# Altium schematic symbol library majestic_LibAltium.SchLib: 368 symbols (part 2 of 3)
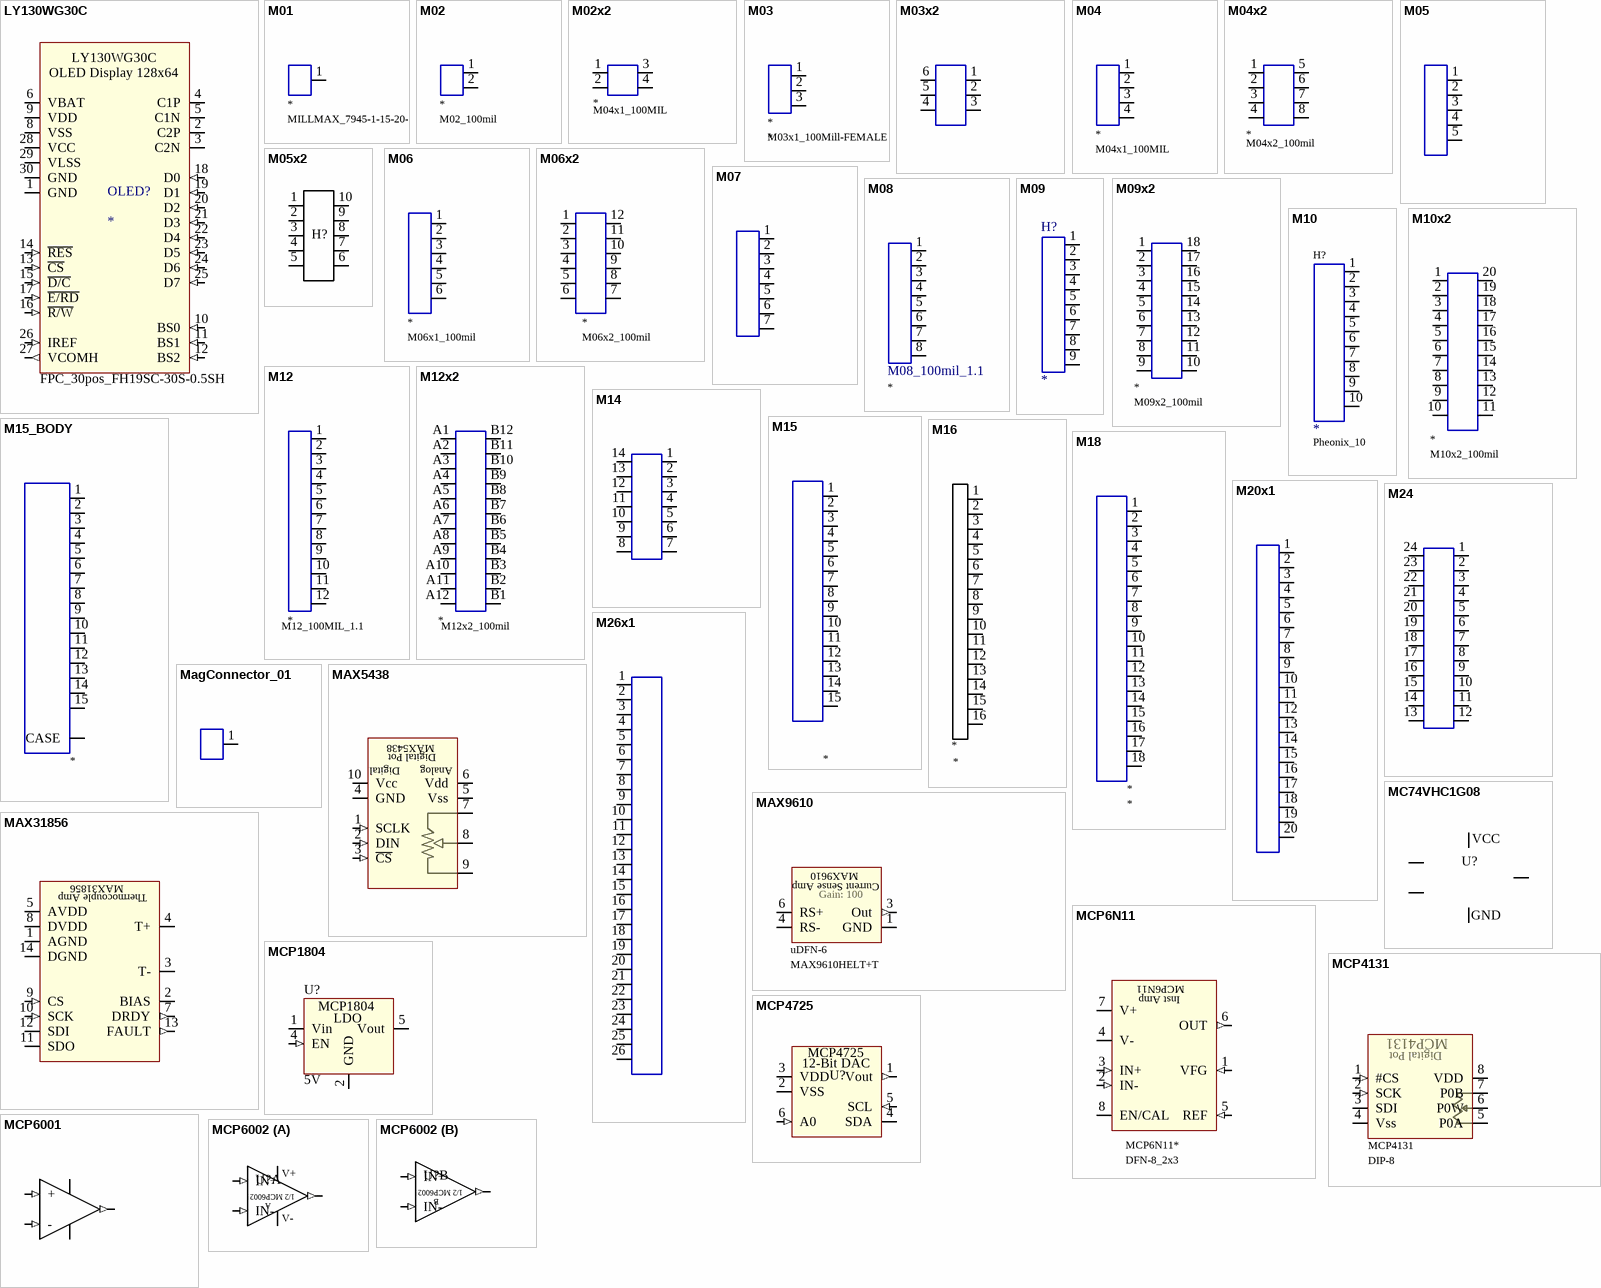
[diagram p14: symbols LY130WG30C to MCP6002]

## LY130WG30C
designator OLED?
128x64 OLED display, 1.3"; Part Number: LY130WG30C-128064; Manufacturer: LI YUAN Electronics; Value: OLED 128x64; Power Rating: *; Room Code: *
footprint FPC_30pos_FH19SC-30S-0.5SH; pin to pad 1>30 2>29 3>28 4>27 5>26 6>25 8>23 9>22 10>21 11>20 12>19 13>18 14>17 15>16 16>15 17>14 18>13 19>12 20>11 21>10 22>9 23>8 24>7 25>6 26>5 27>4 28>3 29>2 30>1
footprint FPC_30pos_FH19SC-30S-0.5SH -Display
footprint SFV30R-4STE1HLF
footprint F32Q-1A7H1-11030 (FPC 30-POS 0.5mm)
pins: 1 GND (power), 2 C2P, 3 C2N, 4 C1P, 5 C1N, 6 VBAT (power), 8 VSS (power), 9 VDD (power), 10 BS0 (in), 11 BS1 (in), 12 BS2 (in), 13 ~{CS} (in), 14 ~{RES} (in), 15 ~{D/C} (in), 16 ~{R/W} (in), 17 ~{E/RD} (in), 18 D0 (in), 19 D1 (in), 20 D2 (in), 21 D3 (in), 22 D4 (in), 23 D5 (in), 24 D6 (in), 25 D7 (in), 26 IREF (in), 27 VCOMH (out), 28 VCC (power), 29 VLSS (power), 30 GND (power)
text: OLED Display 128x64

## M01
designator H?
1x1 Header; Room Code: *; partNumber: *
footprint M01
footprint Hole_1.1mm
footprint SpringPin (0900-1)
footprint banana_CT3151SP_black (Banana Jack)
footprint banana_CT3151SP_red (Banana Jack)
footprint TerminalBlock_1704994
footprint DF59M-1S-H (CONN SSL RCPT 1POS SOLDER)
footprint M01_SMD_1mmx3mm (Small surface mount pad)
footprint SMTRAM2-6-5ET
footprint millMax_0908-2-15-20-75-14-11-0
footprint MILLMAX_1578-3-57-15-00-00-03-0
footprint MILLMAX_1948-0-00-15-00-00-03-0
footprint MILLMAX_7945-1-15-20-09-14-11-0
footprint M01_THRU
footprint M01_SMD_2x2
footprint M01_SMD_1x1
pins: 1

## M02
designator H?, comment Header  (value not drawn)
Voltage Rating: *; Current Rating: *; partNumber: *
footprint M02_100mil
footprint ScrewTerminal_2 (1776275-2)
footprint M02x1_1.6mm
footprint MillMax_399-M02
footprint JST_2PIN
footprint TerminalBlock_1x2_5.08mm (OnShore)
footprint M02_14awg
footprint JST-BM02B-SRSS-TB (2 pin JST connector SH series)
footprint FCI_2x1_1.25mm_WTB
footprint TerminalBlock_1x2_100mil
footprint terminalBlock_1x2_3.5mm
footprint pheonix_1x2_4mm_1824527
footprint molex_2x1_4mm_1041880210 (Footprint not found)
footprint molex_2x1_2mm_5024940270
footprint pheonix_1x2_3.5mm_1824080
footprint PCC-SMP (Thermocouple Connector)
footprint M02x1_5.08mm
footprint terminalBlock_plugAssm_2x1_5.08
footprint M02_100mil_holes
footprint M02_NTC
footprint TE_1x2_2mm_6-44054-2
footprint B2B-PH-K-S
footprint JST_SM02B-LEASS-TF
footprint JST-S2B-PH-SM4
footprint 781710002 (Molex Pico-EZmate 2POS)
footprint Molex_2x1_533980271
pins: 1, 2

## M02x2
designator ?
Current Rating: *; Voltage Rating: *; roomCode: *; partNumber: *
footprint M04x1_100MIL
pins: 1, 2, 3, 4

## M03
designator H?
Header; Voltage Rating: *; Current Rating: *; Polarity: *; partNumber: *
footprint M03x1_100Mill-FEMALE
footprint M03X1_100Mil_Male
footprint terminalBlock_1x3_3.5mm
footprint molex_1x3_1.2mm_781710003
footprint terminalBlock_1x3_100mil
footprint TerminalBlock_1x3_5.08MM (OnShore)
footprint molex_1x2_1.25mm_530470310
footprint molex_1x3_1.25mm_right_0530480310
footprint JST_BM03B-ADHKS-GAN-ETB
footprint HEADER_3x1_50mil
footprint FLEX_PADS
footprint FLEX_PADS_HANDLE_2
pins: 1, 2, 3

## M03x2
designator H?, comment Header
footprint M03x2_100mil
footprint HEADER_3x2_50mil
pins: 1, 2, 3, 4, 5, 6

## M04
designator H?
Header; Voltage Rating: *; Current Rating: *; partNumber: *
footprint M04x1_100MIL
footprint M04_female_100mil_right
footprint M04x1_femail_100mil_right_thru
footprint terminalBlock_1x4_100mil
footprint terminalBlock_Harting_1x4_100mil
footprint M04X1_100mil_shrouded
footprint TerminalBlock_1x4_5.08mm (OnShore)
footprint M04X1_100MIL_shrouded_complete
footprint TERMINALBLOCK_1X4_3.5MM
footprint HEADER_2x2_50mil
footprint Header_1x4_100mil_Fan_470531000
footprint Hirose_BM29-2DS
footprint HIROSE_BM29B-2DP
footprint 781710004
pins: 1, 2, 3, 4

## M04x2
designator ?
Current Rating: *; Voltage Rating: *; roomCode: *; partNumber: *
footprint M04x2_100mil
footprint M04x2_100mil_0702460801
footprint M04x2_100mil_female_SSW-104-01-G-D
pins: 1, 2, 3, 4, 5, 6, 7, 8

## M05
designator H?, comment Header  (value not drawn)
Voltage Rating: *; Current Rating: *; partNumber: *
footprint JST-XHP-5
footprint Molex_5x1_100mil
footprint M05x1_100mil
footprint terminalBlock_1x5_5.08mm
footprint TERMINALBLOCK_1x5_100mil
footprint FH19C-5S
footprint terminalBlock_1x5_3.81mm
footprint HEADER_5x1_50mil
footprint JST_B5B_PH_SM4
pins: 1, 2, 3, 4, 5

## M05x2
designator H?  (value not drawn)
Male 5x2 Header; partNumber: *; Voltage Rating: *; Current Rating: *; roomCode: *
footprint F05x2_100mil_SFH11-PBPC-D05 (Female)
footprint M05x2_100mil_302-S101
pins: 1, 2, 3, 4, 5, 6, 7, 8, 9, 10

## M06
designator H?, comment Header  (value not drawn)
partNumber: *
footprint M06x1_100mil
footprint MillMax-6x1-Male (399-10-006-00-310000)
footprint MillMax-6x1_Female (399-41-006-21-30000)
footprint PCB_Nail (Mill-Max 4288-0-00-01-00-31)
footprint MICA_millMaxHeader (399 & 4288)
footprint M06x1_100mil-FEMALE
footprint MILLMAX_817_3x2 (817-22-006-30-001101)
footprint TerminalBlock_1x6 (OnShore)
footprint terminalBlock_1x6_3.5mm
footprint TERMINALBLOCK_1x6_5mm
footprint TERMINALBLOCK_1X6_100MIL
footprint HEADER_3x2_50mil
footprint M03x2_100mil
footprint HEADER_6x1_50mil
footprint Header_Molex_090325
footprint header_1x6_901361206
footprint Hirose_BM29-4DS
footprint HIROSE_BM29B-4DP
pins: 1, 2, 3, 4, 5, 6

## M06x2
designator H?, comment Header  (value not drawn)
partNumber: *
footprint M06x2_100mil
pins: 1, 2, 3, 4, 5, 6, 7 6, 8 5, 9 4, 10 3, 11 2, 12 1

## M07
designator H?, comment Header  (value not drawn)
partNumber: *; roomCode: *; Current Rating: *; Voltage Rating: *
footprint M07_100mil
footprint terminalBlock_1x7_3.81mm
footprint HEADER_7x1_50mil
pins: 1, 2, 3, 4, 5, 6, 7

## M08
designator H?, comment MICA cube holder  (value not drawn)
partNumber: *
footprint M08_100mil_1.1
footprint MillMax_817_4x2 (817-22-008-30-001101)
footprint MILLMAX_419_4X2
footprint MILLMAX_813_4X2
footprint MILLMAX_419_SHORT_4x2
footprint M08_100mil_female
footprint terminalBlock_1x8_5mm
pins: 1, 2, 3, 4, 5, 6, 7, 8

## M09
designator H?, comment Header  (value not drawn)
partNumber: *; Voltage Rating: *; Current Rating: *
footprint M09_2mm
footprint M09_100MIL_1.1
footprint terminalBlock_1x9_3.81mm
footprint FPC_9POS_F32R
pins: 1, 2, 3, 4, 5, 6, 7, 8, 9

## M09x2
designator J?
partNumber: *
footprint M09x2_100mil
pins: 1, 2, 3, 4, 5, 6, 7, 8, 9, 10, 11, 12, 13, 14, 15, 16, 17, 18

## M10
designator H?
Voltage Rating: *; partNumber: *; roomCode: *; Current Rating: *
footprint Pheonix_10
footprint molex_10x1_1.27mm_908140810 (Male 10 pin connector)
footprint terminalBlock_1x10_3.81mm
footprint M10x1_100mil
footprint Hirose_DF37NC-10DS
pins: 1, 2, 3, 4, 5, 6, 7, 8, 9, 10

## M10x2
designator J?, comment Header  (value not drawn)
partNumber: *
footprint M10x2_100mil
pins: 1, 2, 3, 4, 5, 6, 7, 8, 9, 10, 11, 12, 13, 14, 15, 16, 17, 18, 19, 20

## M12
designator H?, comment Header  (value not drawn)
Male Header; Current Rating: *; Voltage Rating: *; partNumber: *
footprint M12_100MIL_1.1
footprint CubeStruts-12
footprint M12x1_50mil_MALE
pins: 1, 2, 3, 4, 5, 6, 7, 8, 9, 10, 11, 12

## M12x2
designator H?, comment Header  (value not drawn)
Voltage Rating: *; Current Rating: *; partNumber: *
footprint M12x2_100mil; pin to pad A1>1 A2>2 A3>3 A4>4 A5>5 A6>6 A7>7 A8>8 A9>9 A10>10 A11>11 A12>12 B1>13 B2>14 B3>15 B4>16 B5>17 B6>18 B7>19 B8>20 B9>21 B10>22 B11>23 B12>24
footprint M12x2_50mil_Female
footprint m12x2_50mil_MALE; pin to pad A1>1 A2>2 A3>3 A4>4 A5>5 A6>6 A7>7 A8>8 A9>9 A10>10 A11>11 A12>12 B1>13 B2>14 B3>15 B4>16 B5>17 B6>18 B7>19 B8>20 B9>21 B10>22 B11>23 B12>24
pins: A1, A2, A3, A4, A5, A6, A7, A8, A9, A10, A11, A12, B1, B2, B3, B4, B5, B6, B7, B8, B9, B10, B11, B12

## M14
designator H?, comment Header  (value not drawn)
footprint M7x2_2mm
footprint M14x1_100mil
footprint M07x2_100mil
pins: 1, 2, 3, 4, 5, 6, 7, 8, 9, 10, 11, 12, 13, 14

## M15
designator H?
Voltage Rating: *; roomCode: *; partNumber: *
footprint FPC_15POS_VERT_F31S_LAND
pins: 1, 2, 3, 4, 5, 6, 7, 8, 9, 10, 11, 12, 13, 14, 15

## M15_BODY
designator H?
Voltage Rating: *; roomCode: *; partNumber: *
footprint FPC_15POS_VERT_F31S
pins: 0 CASE, 1, 2, 3, 4, 5, 6, 7, 8, 9, 10, 11, 12, 13, 14, 15

## M16
designator H?
Voltage Rating: *; partNumber: *; Current Rating: *
footprint molex_16x1.27mm_0908140816
pins: 1, 2, 3, 4, 5, 6, 7, 8, 9, 10, 11, 12, 13, 14, 15, 16

## M18
designator H?
Voltage Rating: *; partNumber: *; Current Rating: *
footprint ZIF_18x0.5mm (MOLEX 0527461871)
footprint Molex_0527461871 (CONN FFC BOTTOM 18POS 0.50MM R/A SLIDE LOCK)
footprint Molex_5051101892 (ZIF, 18 pos, 0.5mm pitch)
footprint FPC_18pos_vert1-1734742-8
pins: 1, 2, 3, 4, 5, 6, 7, 8, 9, 10, 11, 12, 13, 14, 15, 16, 17, 18

## M20x1
designator H?
partNumber: *; Current Rating: *; Voltage Rating: *
footprint M20x1_100mil-FEMALE
footprint PSoC_059_DriveBot-20
footprint FPC_20pos_vert_2004850520
pins: 1, 2, 3, 4, 5, 6, 7, 8, 9, 10, 11, 12, 13, 14, 15, 16, 17, 18, 19, 20

## M24
designator H?
partNumber: *; roomCode: *; Current Rating: *; Voltage Rating: *
footprint M24_2mm
footprint M12x2_100mil
pins: 1, 2, 3, 4, 5, 6, 7, 8, 9, 10, 11, 12, 13, 14, 15, 16, 17, 18, 19, 20, 21, 22, 23, 24

## M26x1
designator H?
footprint M26x1_100mil
pins: 1, 2, 3, 4, 5, 6, 7, 8, 9, 10, 11, 12, 13, 14, 15, 16, 17, 18, 19, 20, 21, 22, 23, 24, 25, 26

## MagConnector_01
designator H?
Gold Plated Magnet
footprint MagnetConnector_4mm
pins: 1

## MAX5438
designator U?
Digital Potentiometer; partNumber: MAX5438; value: 100k
footprint uMax-10
pins: 1 SCLK (in), 2 DIN (in), 3 ~{CS} (in), 4 GND (power), 5 Vss (power), 6 Vdd (power), 7 High, 8 Wiper, 9 Low, 10 Vcc (power)
text: Digital Pot; Digital; Analog

## MAX9610
designator U?  PartNumber: MAX9610HELT+T  Gain: 100
Current Sense Amplifier
footprint uDFN-6
pins: 1 GND (power), 3 Out (out), 4 RS-, 6 RS+
text: Current Sense Amp

## MAX31856
designator U?
Precision Thermocouple to Digital Converter with Linearization; partNumber: *; Operating Range: *; Measurement Range: *
footprint 14-TSSOP (Thermo Sensor)
pins: 1 AGND (power), 2 BIAS, 3 T- (power), 4 T+ (power), 5 AVDD (power), 7 DRDY (out), 8 DVDD (power), 9 CS (in), 10 SCK (in), 11 SDO (io), 12 SDI (io), 13 FAULT (out), 14 DGND (power)
text: Thermocouple Amp

## MC74VHC1G08
designator U?  (value not drawn)
AND Gate; partNumber: *; Voltage Rating: *; Current Rating: *; roomCode: *
footprint SOT-353
pins: 1 B, 2 A, 3 GND, 4 Y, 5 VCC

## MCP6N11
designator U?  partNumber: MCP6N11*
Instrumentation amp
footprint DFN-8_2x3
pins: 0 Epad (power), 1 VFG (in), 2 IN- (in), 3 IN+ (in), 4 V- (power), 5 REF (in), 6 OUT (out), 7 V+ (power), 8 EN/CAL (oc)
text: Inst Amp

## MCP1804
designator U?  value 5V  (hidden comment: *)
Linear Regulator with Enable; partNumber: MCP1804T-5002I/OT; Voltage Rating: 28 V; Current Rating: 150 mA; roomCode: *
footprint SOT23-5
pins: 1 Vin (power), 2 GND (power), 4 EN (in), 5 Vout (power)
text: LDO

## MCP4131
designator U?  partNumber: MCP4131
Digital Potentiometer; value: *
footprint DIP-8
pins: 1 #CS (in), 2 SCK (in), 3 SDI (io), 4 Vss (power), 5 P0A, 6 P0W, 7 P0B, 8 VDD (power)
text: Digital Pot

## MCP4725
designator U?  (value not drawn)
DAC 12-bit; partNumber: MCP4725A0T-E/CH; Voltage Rating: 5.5 V; i2cAddress: 0x60; Current Rating: *; roomCode: *
footprint SOT23-6
pins: 1 Vout (out), 2 VSS (power), 3 VDD (power), 4 SDA (io), 5 SCL (in), 6 A0 (in)
text: 12-Bit DAC

## MCP6001
designator U?, comment OpAmp
footprint SOT23-5
pins: 1 Vout (out), 2 Vss (power), 3 + (in), 4 - (in), 5 Vdd (power)

## MCP6002
designator U?  (value not drawn)
GP Op-Amp Single Supply; partNumber: *; Voltage Rating: *; Current Rating: *; roomCode: *
footprint SOIC-8
part A pins: 1 OutA (out), 2 IN- (in), 3 IN+ (in), 4 V- (power), 8 V+ (power)
part B pins: 5 IN+ (in), 6 IN- (in), 7 OutB (out)
part A text: 1/2 MCP6002; A
part B text: 1/2 MCP6002; B

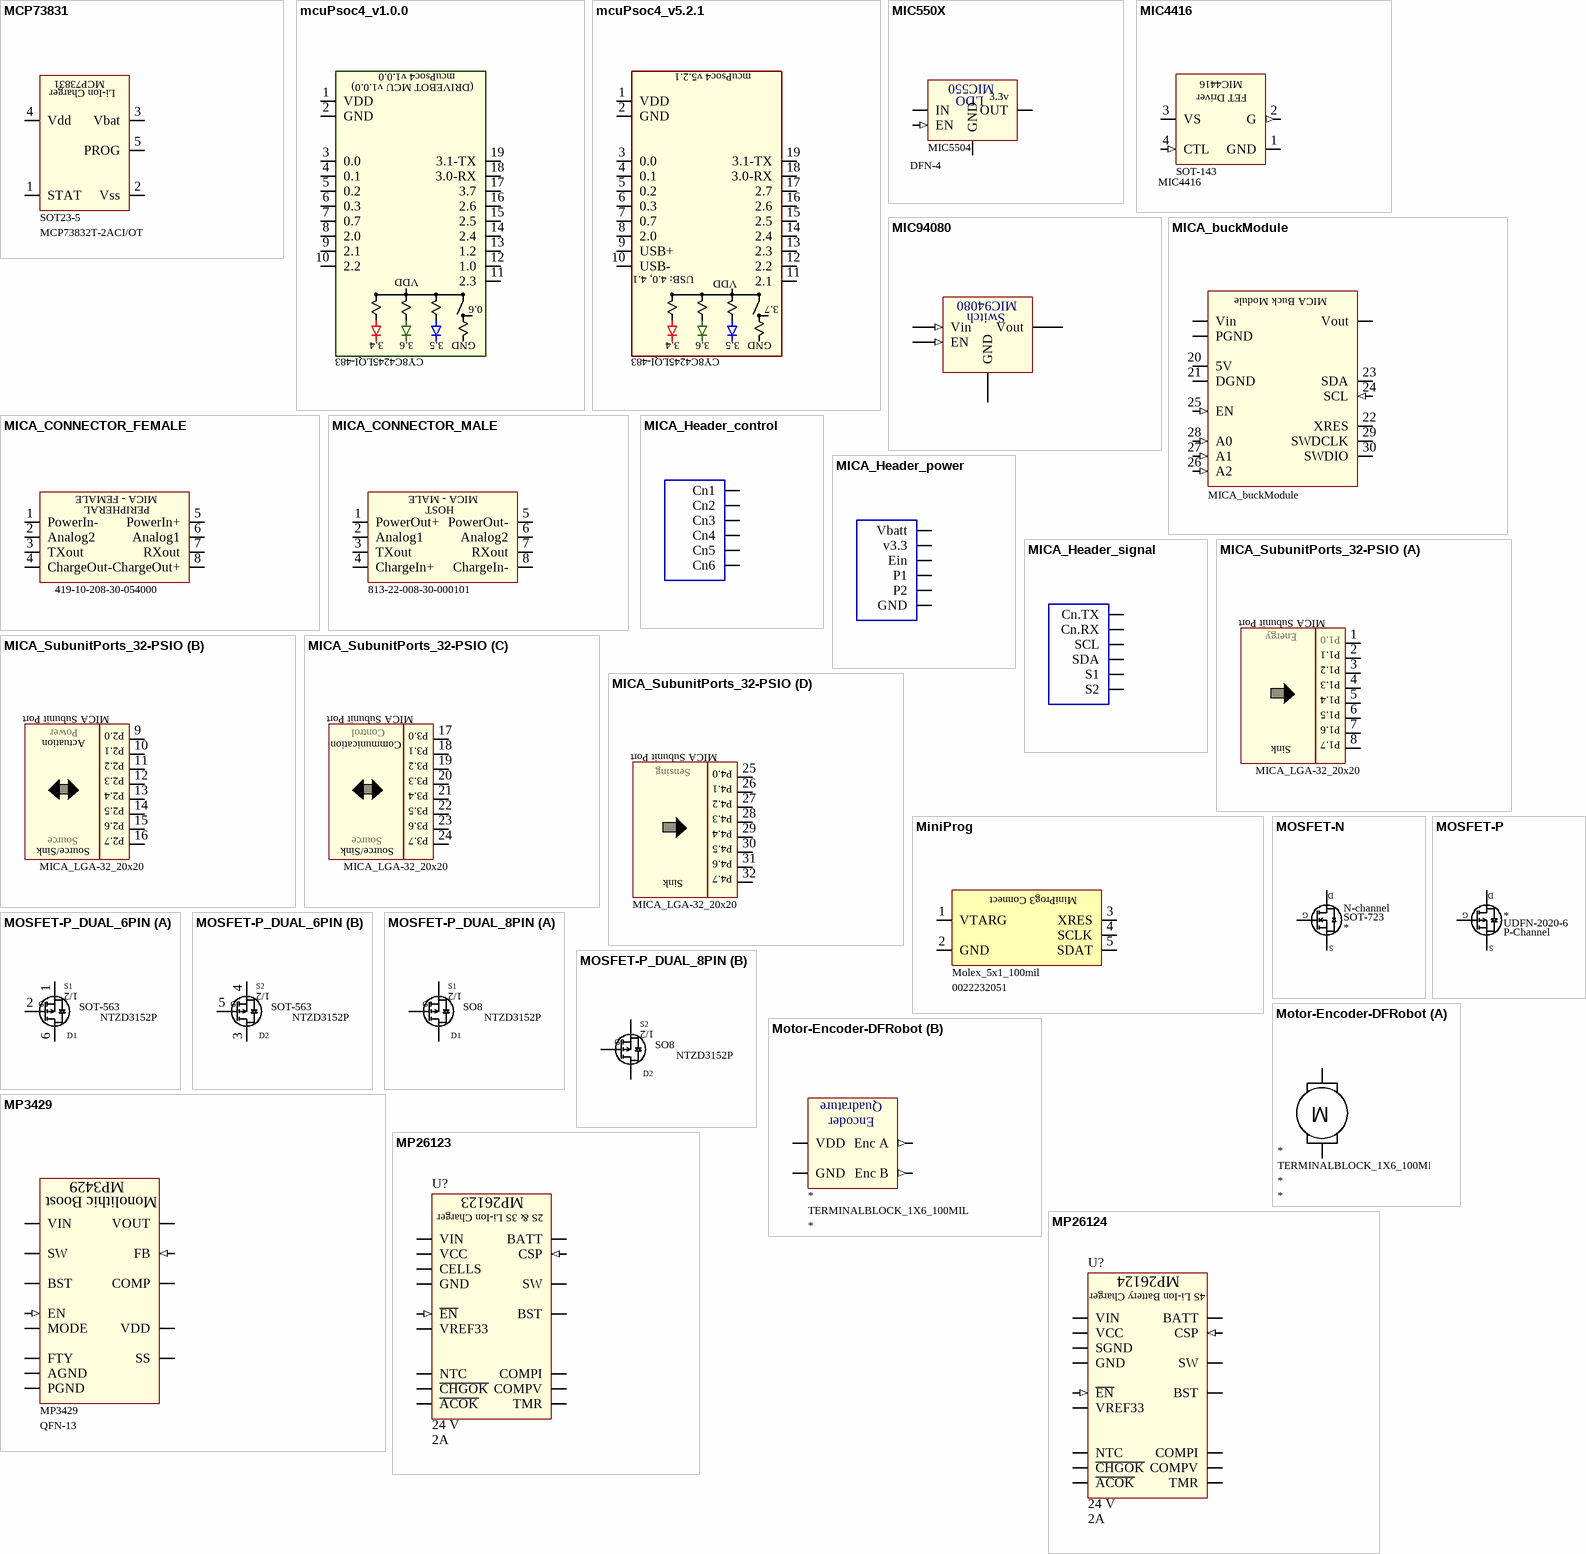
[diagram p7: symbols MCP73831 to MP26124]

## MCP73831
designator U?  Part Number: MCP73832T-2ACI/OT
Li-Ion Battery charger; Power Rating: 500 mA; Room Code: *; Value: *
footprint SOT23-5
pins: 1 STAT (oc), 2 Vss (power), 3 Vbat (power), 4 Vdd (power), 5 PROG
text: Li-Ion Charger

## mcuPsoc4_v1.0.0
designator U?
DB_MCUBoard_v1.0.0; Voltage Rating: 5 V; partNumber: *
pins: 1 VDD (power), 2 GND (power), 3 0.0 (io), 4 0.1 (io), 5 0.2 (io), 6 0.3 (io), 7 0.7 (io), 8 2.0 (io), 9 2.1 (io), 10 2.2 (io), 11 2.3 (io), 12 1.0 (io), 13 1.2 (io), 14 2.4 (io), 15 2.5 (io), 16 2.6 (io), 17 3.7 (io), 18 3.0-RX (io), 19 3.1-TX (io)
text: mcuPsoc4 v1.0.0; (DRIVEBOT MCU v1.0.0); 0.6; 3.4; 3.6; 3.5; CY8C4245LQI-483

## mcuPsoc4_v5.2.1
designator ?
Red PSoC 4 board
pins: 1 VDD (power), 2 GND (power), 3 0.0 (io), 4 0.1 (io), 5 0.2 (io), 6 0.3 (io), 7 0.7 (io), 8 2.0 (io), 9 USB+ (io), 10 USB- (io), 11 2.1 (io), 12 2.2 (io), 13 2.3 (io), 14 2.4 (io), 15 2.5 (io), 16 2.6 (io), 17 2.7 (io), 18 3.0-RX (io), 19 3.1-TX (io)
text: mcuPsoc4 v5.2.1; USB: 4.0, 4.1; 3.7; 3.4; 3.6; 3.5; CY8C4245LQI-483

## MIC550X
designator U?  PartNumber: MIC5504  Vout: 3.3v
3.3v Linear Regulator; Vin_min: 3.5v
footprint DFN-4 (MIC550X); pin to pad EN>3 GND>2 IN>4 OUT>1
footprint SOT23-5; pin to pad EN>3 GND>2 IN>1 OUT>5
pins: EN (in), GND (power), IN (power), OUT (power)
text: MIC550; LDO

## MIC4416
designator U?  partNumber: MIC4416
MOSFET driver; Voltage Rating: 18 V; Current Rating: 1.2 A
footprint SOT-143
pins: 1 GND (power), 2 G (out), 3 VS (power), 4 CTL (in)
text: FET Driver

## MIC94080
designator U?, comment PowerSwitch  (value not drawn)
Power Switch
footprint MLF-4 (MIC94080)
pins: 1 Vout (power), 2 GND (power), 3 Vin (in), 4 EN (in)
text: Switch

## MICA_buckModule
designator U?
Buck Converter; partNumber: *; Current Rating: *; Voltage Rating: *; roomCode: *; i2cAddress: *
footprint MICA_buckModule
pins: 1 Vin (power), 2 Vin (power), 3 Vin (power), 4 Vin (power), 5 PGND (power), 6 PGND (power), 7 PGND (power), 8 PGND (power), 9 PGND (power), 10 PGND (power), 11 PGND (power), 12 PGND (power), 13 Vout (power), 14 Vout (power), 15 Vout (power), 16 Vout (power), 20 5V (power), 21 DGND (power), 22 XRES, 23 SDA (io), 24 SCL (in), 25 EN (in), 26 A2 (in), 27 A1 (in), 28 A0 (in), 29 SWDCLK, 30 SWDIO
text: MICA Buck Module

## MICA_CONNECTOR_FEMALE
designator H?  partNumber: 419-10-208-30-054000
Rceptacle for Male Spring pins; Voltage rating: 100 V; Current Rating: 2 A
footprint MICA_FEMALE_PERIPHERAL_V1 (The female Millmax and magnet hole pattern for accepting a Male Device)
pins: 1 PowerIn-, 2 Analog2, 3 TXout, 4 ChargeOut-, 5 PowerIn+, 6 Analog1, 7 RXout, 8 ChargeOut+
text: MICA - FEMALE; PERIPHERAL

## MICA_CONNECTOR_MALE
designator H?  partNumber: 813-22-008-30-000101
Spring Loaded Male Connector (Host); Current Rating: 2 A; Voltage Rating: 100 V
footprint MILLMAX_813_4X2
pins: 1 PowerOut+, 2 Analog1, 3 TXout, 4 ChargeIn+, 5 PowerOut-, 6 Analog2, 7 RXout, 8 ChargeIn-
text: MICA - MALE; HOST

## MICA_Header_control
designator Control
footprint MICA_millMaxHeader (399 & 4288)
pins: 1 Cn1, 2 Cn2, 3 Cn3, 4 Cn4, 5 Cn5, 6 Cn6

## MICA_Header_power
designator Power, comment Header  (value not drawn)
MillMax headers for MICA
footprint MICA_millMaxHeader (399 & 4288)
pins: 1 Vbatt, 2 v3.3, 3 Ein, 4 P1, 5 P2, 6 GND

## MICA_Header_signal
designator Signal
footprint MICA_millMaxHeader (399 & 4288)
pins: 1 Cn.TX, 2 Cn.RX, 3 SCL, 4 SDA, 5 S1, 6 S2

## MICA_Logo_v2.1
designator MICA_Logo  (no BOM)
Triangle Cube
footprint MICA_Logo
footprint MICA_LOGO_Wide
footprint MICA_logo_v2.1_16mm (Solidworks generated)
footprint mica_logo_v2.1_6mm

## MICA_SubunitPorts_32-PSIO
designator P?  (no BOM)
Ports for a 32 pin MICA Subunit. Has an even 8x4 for Power Signal / Input Output; PartNumber: PSIO8888; Value: *
footprint MICA_LGA-32_20x20
footprint MICA_LGA-32_20x20_Land
footprint MICA_LGA-32_10x10
footprint MICA_LGA-32_10x10_Land
footprint MICA_LGA-32_30x30
footprint MICA_LGA-32_30x30 _Land
footprint MICA_LGA-32_40x40
footprint MICA_LGA-32_40x40_Land
part A pins: 1 P1.0, 2 P1.1, 3 P1.2, 4 P1.3, 5 P1.4, 6 P1.5, 7 P1.6, 8 P1.7
part B pins: 9 P2.0, 10 P2.1, 11 P2.2, 12 P2.3, 13 P2.4, 14 P2.5, 15 P2.6, 16 P2.7
part C pins: 17 P3.0, 18 P3.1, 19 P3.2, 20 P3.3, 21 P3.4, 22 P3.5, 23 P3.6, 24 P3.7
part D pins: 25 P4.0, 26 P4.1, 27 P4.2, 28 P4.3, 29 P4.4, 30 P4.5, 31 P4.6, 32 P4.7
part A text: MICA Subunit Port; Energy; Sink
part B text: MICA Subunit Port; Power; Actuation; Source; Source/Sink
part C text: MICA Subunit Port; Control; Communication; Source; Source/Sink
part D text: MICA Subunit Port; Sensing; Sink

## MiniProg
designator ?  partNumber: 0022232051
footprint for the miniprog 3 programmer
footprint Molex_5x1_100mil
pins: 1 VTARG, 2 GND, 3 XRES, 4 SCLK, 5 SDAT
text: MiniProg3 Connect

## MOSFET-N
designator Q?, comment Type: N-channel  (hidden comment: N-FET)
N-Channel FET; Vds: *; Id: *; Rds_on: *; roomCode: *; PartNumber: *
footprint SOT-23; pin to pad D>3 G>1 S>2
footprint TO-220; pin to pad D>2 G>1 S>3
footprint TO-251; pin to pad D>2 G>1 S>3
footprint SOT-223; pin to pad D>2 G>1 S>3
footprint FemtoFET-F5; pin to pad D>3 G>1 S>2
footprint XFDFN-3 (PICOSTAR CSD13381F4); pin to pad D>3 G>1 S>2
footprint M03x1_100Mill-FEMALE; pin to pad D>2 G>1 S>3
footprint TO252; pin to pad D>2 G>3 S>1
footprint DFN-8_FET (Footprint not found)
footprint PowerVDFN-8
footprint SOT-723
footprint SOT-323FL; pin to pad D>3 G>1 S>2
pins: D, G, S

## MOSFET-P
designator Q?, comment Type: P-Channel  (hidden comment: P-FET)
P-Channel FET; I_d: *; Rds_on: *; Vds: *; PartNumber: *
footprint SOT-23; pin to pad D>3 D2>3 G>2 S>1
footprint SOT-223; pin to pad D>2 D2>4 G>1 S>3
footprint SOT-23F; pin to pad D>3 D2>3 G>1 S>2
footprint UDFN-2020-6; pin to pad D2>D
pins: D, D2 D, G, S (power)

## MOSFET-P_DUAL_6PIN
designator Q?  PartNumber: NTZD3152P
Dual P-FET; Id: -430 mA; Vds: -20 V; Vgs_max: 6 V; Rds: 0.6
footprint SOT-563
footprint SOT-363
part A pins: 1 S1 (power), 2 G1, 6 D1
part B pins: 3 D2, 4 S2 (power), 5 G2
part A text: 1/2
part B text: 1/2

## MOSFET-P_DUAL_8PIN
designator Q?  PartNumber: NTZD3152P
Dual P-FET; Id: -430 mA; Vds: -20 V; Vgs_max: 6 V; Rds: 0.6
footprint SO8
part A pins: 3 S1 (power), 4 G1, 5 D1, 6 D1
part B pins: 1 S2 (power), 2 G2, 7 D2, 8 D2
part A text: 1/2
part B text: 1/2

## Motor-Encoder-DFRobot
designator M?
PartNumber: *; Gear Ratio: *; HeaderPartNumber: *
footprint TERMINALBLOCK_1X6_100MIL
part A pins: 1 M1, 6 M2
part B pins: 2 VDD (power), 3 Enc A (out), 4 Enc B (out), 5 GND (power)
part A text: M
part B text: Quadrature; Encoder

## MP3429
designator U?  partNumber: MP3429
Boost - Monolithic; Voltage Rating: 16 V; Current Rating: 21 A
footprint QFN-13
pins: 1 SW (power), 2 VDD (power), 3 SS, 4 COMP, 5 FB (in), 6 AGND (power), 7 PGND (power), 8 VOUT (power), 9 FTY, 10 MODE, 11 EN (in), 12 VIN (power), 13 BST
text: Monolithic Boost

## MP26123
designator U?  Current Rating: 2A  Voltage Rating: 24 V  (hidden comment: *)
Li-Ion Battery Charger, 3S, Step Down 2A; partNumber: MP26124GR-Z; roomCode: *
footprint 16-VQFN
pins: 0 GND, 1 VCC (power), 2 NTC, 3 ~{ACOK} (oc), 4 ~{CHGOK} (oc), 5 VREF33 (power), 6 ~{EN} (in), 7 CELLS (power), 8 COMPV, 9 COMPI, 10 BATT (power), 11 CSP (in), 12 GND (power), 13 TMR, 14 BST (power), 15 SW (power), 16 VIN (power)
text: 2S & 3S Li-Ion Charger

## MP26124
designator U?  Voltage Rating: 24 V  Current Rating: 2A  (hidden comment: *)
Li-Ion Battery Charger, 4S, Step Down 2A; partNumber: MP26124GR-Z; roomCode: *
footprint 16-VQFN
pins: 0 GND, 1 VCC (power), 2 NTC, 3 ~{ACOK} (oc), 4 ~{CHGOK} (oc), 5 VREF33 (power), 6 ~{EN} (in), 7 SGND (power), 8 COMPV, 9 COMPI, 10 BATT (power), 11 CSP (in), 12 GND (power), 13 TMR, 14 BST (power), 15 SW (power), 16 VIN (power)
text: 4S Li-Ion Battery Charger

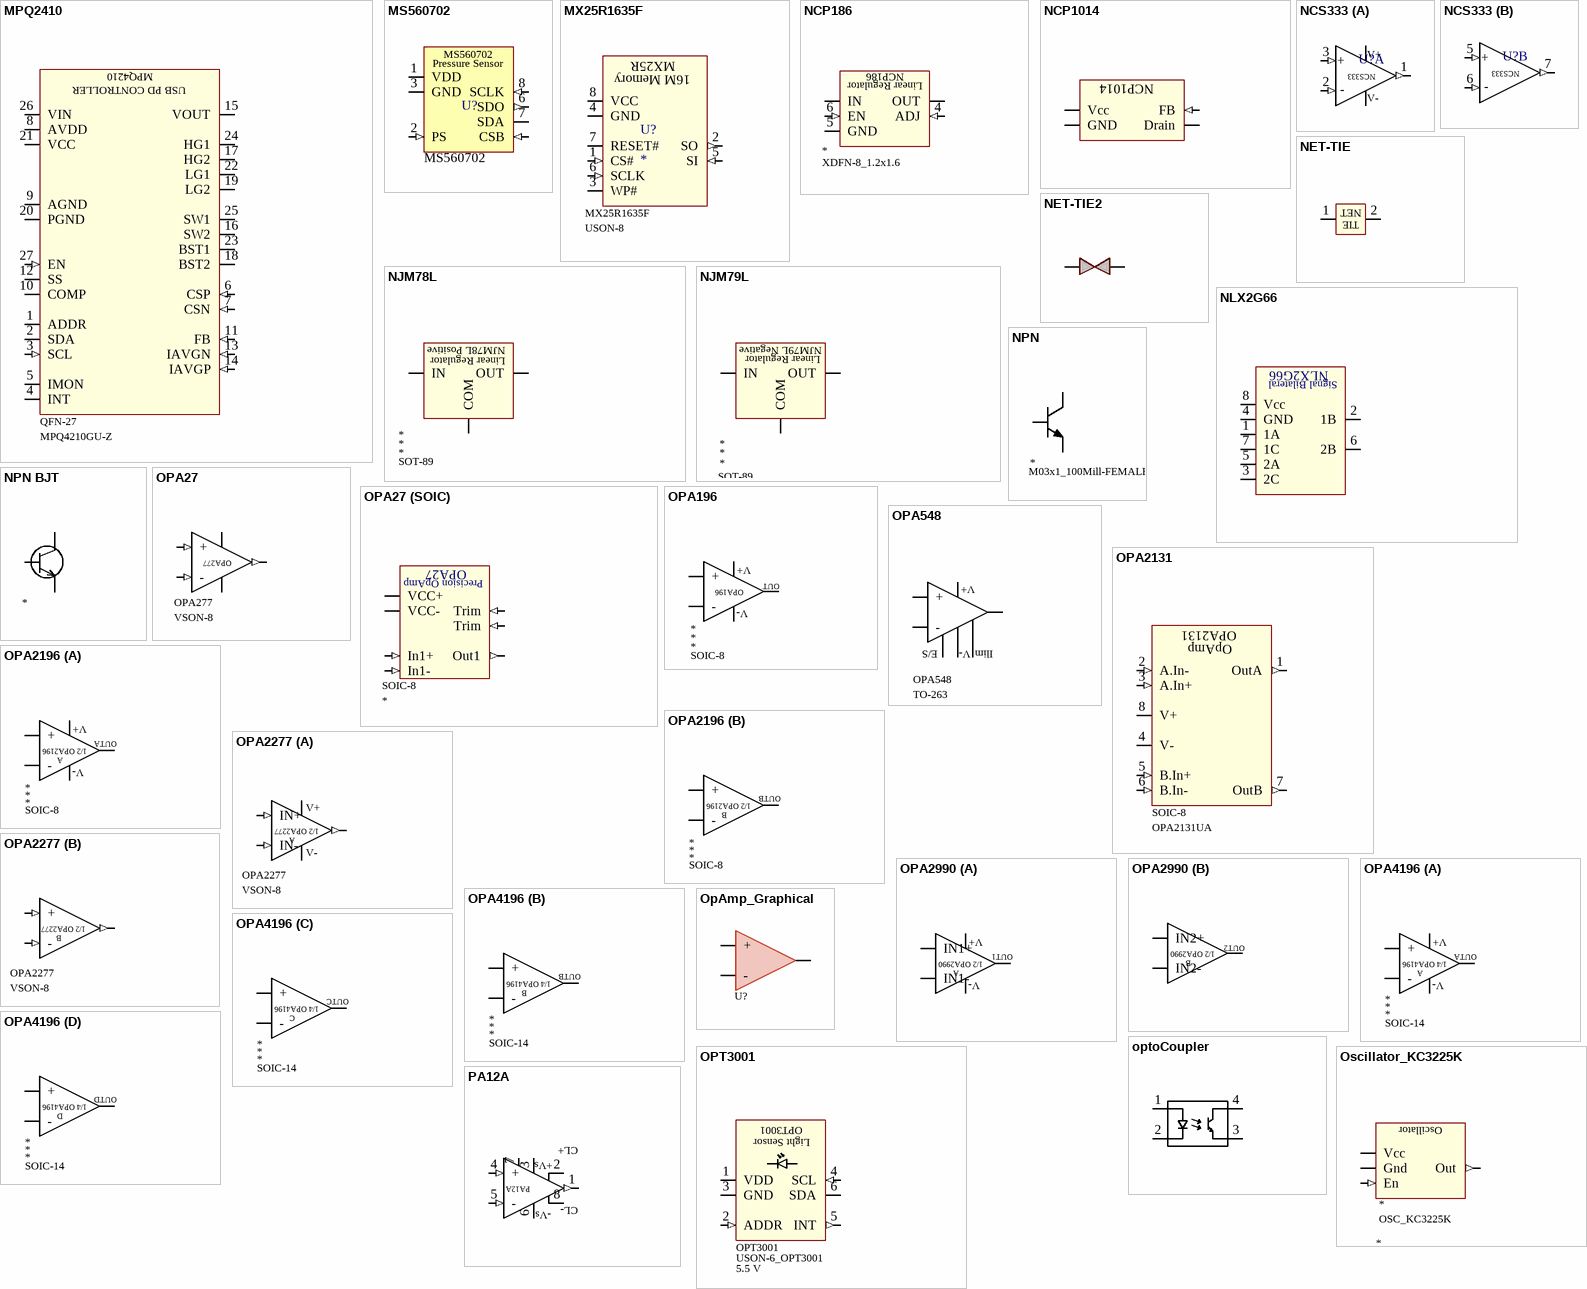
[diagram p8: symbols MPQ2410 to PA12A]

## MPQ2410
designator U?  partNumber: MPQ4210GU-Z
USB C PD Synchronous Buck-Boost Controller with I2C; Voltage Rating: 40 V
footprint QFN-27
pins: 1 ADDR, 2 SDA (io), 3 SCL (in), 4 INT (oc), 5 IMON, 6 CSP (in), 7 CSN (in), 8 AVDD (power), 9 AGND (power), 10 COMP, 11 FB (in), 12 SS, 13 IAVGN (in), 14 IAVGP (in), 15 VOUT (power), 16 SW2, 17 HG2, 18 BST2, 19 LG2, 20 PGND (power), 21 VCC (power), 22 LG1 (power), 23 BST1 (power), 24 HG1 (power), 25 SW1 (power), 26 VIN (power), 27 EN (in), 28 PGND (power)
text: MPQ4210; USB PD CONTROLLER

## MS560702
designator U?  partNumber: MS560702  (hidden comment: *)
Pressure Sensor/Barometer; Voltage Rating: 4V; Current Rating: *
footprint MS560702 (Pressure Sensor/Barometer)
pins: 1 VDD (power), 2 PS (in), 3 GND (power), 4 CSB (in), 5 CSB (in), 6 SDO (out), 7 SDA (io), 8 SCLK (in)
text: Pressure Sensor

## MX25R1635F
designator U?  partNumber: MX25R1635F
Memory
footprint USON-8
pins: 1 CS# (in), 2 SO (out), 3 WP# (hiz), 4 GND (power), 5 SI (in), 6 SCLK (in), 7 RESET# (hiz), 8 VCC (power)
text: MX25R; 16M Memory

## NCP186
designator U?
Linear Regulator (LDO); Current Rating: 1 A; Voltage Rating: 5.5 V; Dropout Voltage: 145 mV; Value: *; partNumber: *
footprint XDFN-8_1.2x1.6
pins: 1 OUT (power), 2 OUT (power), 4 ADJ (in), 5 GND (power), 6 EN (in), 7 IN (power), 8 IN (power)
text: Linear Regulator

## NCP1014
designator U?
Flyback Controller & Switch
footprint SOT-223
pins: 1 Vcc (power), 2 FB (in), 3 Drain (oc), 4 GND (power)

## NCS333
designator U?  (value not drawn)
Dual OpAmp Zero Drift; PartNumber: NCS333; Room Code: *; Value: *
footprint UDFN-8_2x2
part A pins: 0 EPAD (power), 1 Out1 (out), 2 IN-1 (in), 3 IN+1 (in), 4 VSS (power), 8 VDD (power)
part B pins: 5 IN+2 (in), 6 IN-2 (in), 7 Out2 (out)
part A text: V+; +; -; V-
part B text: +; -

## NET-TIE
designator NT?  (net tie, no BOM)
footprint NET-TIE_POWER
footprint NET-TIE_SIGNAL
pins: 1, 2
text: NET; TIE

## NET-TIE2
designator NT?  (net tie, no BOM)
Tie two signals together
footprint NET-TIE_POWER
footprint NET-TIE_SIGNAL
footprint NET-TIE_SIGNAL-SMALL
pins: 1, 2

## NJM78L
designator U?
Positive Linear Regulator; partNumber: *; Value: *; Voltage Rating: *
footprint SOT-89
pins: 1 OUT (power), 2 COM (power), 3 IN (power)
text: NJM78L Positive; Linear Regulator

## NJM79L
designator U?
Negative Linear Regulator; partNumber: *; Value: *; Voltage Rating: *
footprint SOT-89
pins: 1 COM (power), 2 IN (power), 3 OUT (power)
text: NJM79L Negative; Linear Regulator

## NLX2G66
designator U?
Dual Bilateral Analog / Switch / Digital Multiplexer; partNumber: *
footprint NLX2G66_517CA
pins: 1 1A (power), 2 1B (power), 3 2C (power), 4 GND (power), 5 2A (power), 6 2B (power), 7 1C (power), 8 Vcc (power)
text: Signal Bilateral

## NPN
designator Q?
Bipolar Transistor; Voltage Rating: *; partNumber: *
footprint M03x1_100Mill-FEMALE
pins: 1 C, 2 B, 3 E

## NPN BJT
designator ?
Bipolar Junction Transistor; Voltage Rating: *; Current Rating: *; partNumber: *
pins: B Base, C Collector, E Emitter

## OPA27
designator U?  partNumber: OPA277
Precision op-amp; Voltage Rating: 36 V
footprint VSON-8
pins: 2 - (in), 3 + (in), 4 V- (power), 6 Out (out), 7 V+ (power), 9 PAD (power)

## OPA27 (SOIC)
designator U?
Precision op-amp; PartNumber: *
footprint SOIC-8
pins: 1 Trim (in), 2 In1- (in), 3 In1+ (in), 4 VCC- (power), 6 Out1 (out), 7 VCC+ (power), 8 Trim (in)
text: OPA27; Precision OpAmp

## OPA196
designator U?
GP Op-Amp; partNumber: *; Voltage Rating: *; Current Rating: *
footprint SOIC-8
pins: 2 -, 3 +, 4 V- (power), 6 OUT, 7 V+ (power)

## OPA548
designator U?  partNumber: OPA548
Power Op-Amp; Voltage Rating: 60 V; Current Rating: 5 A; Value: *
footprint TO-263
footprint TO-263_heatSink
pins: 0 PAD (power), 1 +, 2 -, 3 Ilim, 4 V- (power), 5 V+ (power), 6 Vout, 7 E/S

## OPA2131
designator U?  PartNumber: OPA2131UA
GP Op-Amp
footprint SOIC-8
pins: 1 OutA (out), 2 A.In- (in), 3 A.In+ (in), 4 V- (power), 5 B.In+ (in), 6 B.In- (in), 7 OutB (out), 8 V+ (power)
text: OpAmp

## OPA2196
designator U?
GP Op-Amp; Volatge Rating: *; Current Rating: *; partNumber: *
footprint SOIC-8
part A pins: 1 OUTA, 2 -, 3 +, 4 V- (power), 8 V+ (power)
part B pins: 5 +, 6 -, 7 OUTB
part A text: 1/2 OPA2196; A
part B text: 1/2 OPA2196; B

## OPA2277
designator U?  partNumber: OPA2277
footprint VSON-8
part A pins: 1 OutA (out), 2 IN- (in), 3 IN+ (in), 4 V- (power), 7 V+ (power), 9 PAD (power)
part B pins: 5 + (in), 6 - (in), 8 OutB (out)
part A text: 1/2 OPA2277; A
part B text: 1/2 OPA2277; B

## OPA2990
designator U?
GP Op-Amp
footprint PW0008A (Linear Op-Amp)
part A pins: 1 OUT1, 2 IN1-, 3 IN1+, 4 V- (power), 8 V+ (power)
part B pins: 5 IN2+, 6 IN2-, 7 OUT2
part A text: 1/2 OPA2990; A
part B text: 1/2 OPA2990; B

## OPA4196
designator U?
GP Op-Amp; Current Rating: *; Voltage Rating: *; partNumber: *
footprint SOIC-14
part A pins: 1 OUTA, 2 -, 3 +, 4 V+ (power), 11 V- (power)
part B pins: 5 +, 6 -, 7 OUTB
part C pins: 8 OUTC, 9 -, 10 +
part D pins: 12 +, 13 -, 14 OUTD
part A text: 1/4 OPA4196; A
part B text: 1/4 OPA4196; B
part C text: 1/4 OPA4196; C
part D text: 1/4 OPA4196; D

## OpAmp_Graphical
designator U?  (graphical)
Graphical Op Amp
pins: 2 -, 3 +, 6 OUT

## OPT3001
designator U?  partNumber: OPT3001  Voltage Rating: 5.5 V
Light sensor; Value: *; i2cAddress: *
footprint USON-6_OPT3001 (Light Sensor)
pins: 0 EPAD (power), 1 VDD (power), 2 ADDR (in), 3 GND (power), 4 SCL (in), 5 INT (out), 6 SDA (io)
text: Light Sensor

## optoCoupler
designator O?, comment Optocoupler  (value not drawn)
footprint SOIC-4
pins: 1 Anode, 2 Cathode, 3 Emitter, 4 Collector

## Oscillator_KC3225K
designator Osc?
Oscillator; Value: *; partNumber: *
footprint OSC_KC3225K
pins: 1 En (in), 2 Gnd (power), 3 Out (out), 4 Vcc (power)

## PA12A
designator U?  partNumber: PA12A
IC OPAMP POWER 4MHZ TO3-8; Current Rating: 15 A; Voltage Rating: 100 V
footprint PA12A (Power Op-Amp)
pins: 1 Out (out), 2 CL+, 3 V+ (power), 4 + (in), 5 - (in), 6 V- (power), 7 F.O., 8 CL-
text: +Vs; -Vs

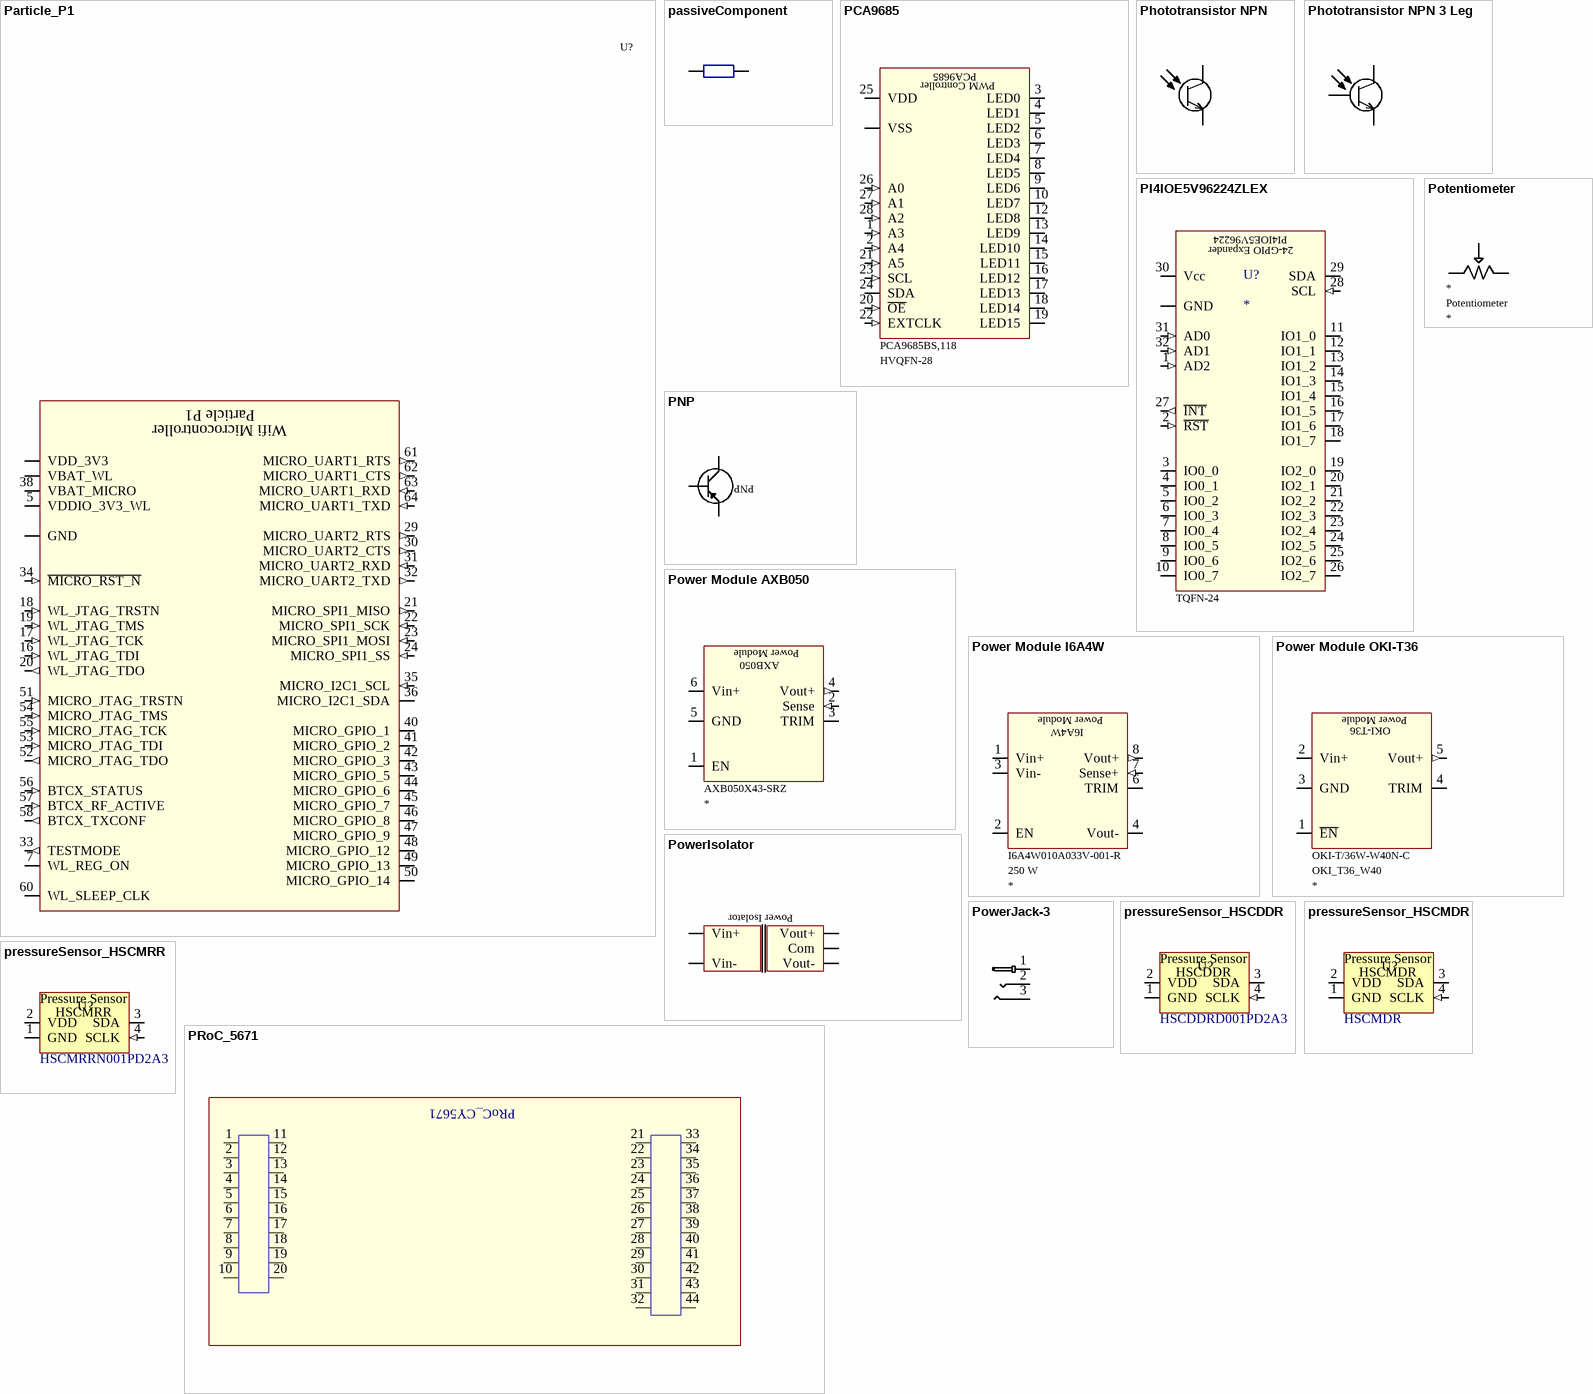
[diagram p9: symbols Particle_P1 to PRoC_5671]

## Particle_P1
designator U?
Wifi microcontroller; PartNumber: P1; Voltage Rating: *
footprint PARTICLE_P1
pins: 1 GND (power), 2 VBAT_WL (power), 3 VBAT_WL (power), 4 GND (power), 5 VDDIO_3V3_WL (power), 6 GND (power), 7 WL_REG_ON (power), 13 GND (power), 15 GND (power), 16 WL_JTAG_TDI (in), 17 WL_JTAG_TCK (in), 18 WL_JTAG_TRSTN (in), 19 WL_JTAG_TMS (in), 20 WL_JTAG_TDO (out), 21 MICRO_SPI1_MISO (out), 22 MICRO_SPI1_SCK (in), 23 MICRO_SPI1_MOSI (in), 24 MICRO_SPI1_SS (in), 25 GND (power), 26 VDD_3V3 (power), 27 VDD_3V3 (power), 28 GND (power), 29 MICRO_UART2_RTS (out), 30 MICRO_UART2_CTS (out), 31 MICRO_UART2_RXD (in), 32 MICRO_UART2_TXD (out), 33 TESTMODE (out), 34 ~{MICRO_RST_N} (in), 35 MICRO_I2C1_SCL (in), 36 MICRO_I2C1_SDA (io), 37 GND (power), 38 VBAT_MICRO (power), 39 GND (power), 40 MICRO_GPIO_1 (io), 41 MICRO_GPIO_2 (io), 42 MICRO_GPIO_3 (io), 43 MICRO_GPIO_5 (io), 44 MICRO_GPIO_6 (io), 45 MICRO_GPIO_7 (io), 46 MICRO_GPIO_8 (io), 47 MICRO_GPIO_9 (io), 48 MICRO_GPIO_12 (io), 49 MICRO_GPIO_13 (io), 50 MICRO_GPIO_14 (io), 51 MICRO_JTAG_TRSTN (in), 52 MICRO_JTAG_TDO (out), 53 MICRO_JTAG_TDI (in), 54 MICRO_JTAG_TMS (in), 55 MICRO_JTAG_TCK (in), 56 BTCX_STATUS (in), 57 BTCX_RF_ACTIVE (in), 58 BTCX_TXCONF (out), 59 GND (power), 60 WL_SLEEP_CLK (io), 61 MICRO_UART1_RTS (out), 62 MICRO_UART1_CTS (out), 63 MICRO_UART1_RXD (in), 64 MICRO_UART1_TXD (in), 65 GND (power), 66 GND (power), 67 GND (power), 68 GND (power), 69 GND (power), 70 GND (power), 71 GND (power), 72 GND (power), 73 GND (power)
text: Particle P1; Wifi Microcontroller

## passiveComponent
designator Z?
LCR component
footprint 0402
footprint 0201
footprint 0603
footprint 0805
pins: 1, 2

## PCA9685
designator U?  partNumber: PCA9685BS,118
16 Channel PWM; Voltage Rating: 5 V
footprint HVQFN-28
pins: 0 PAD (power), 1 A3 (in), 2 A4 (in), 3 LED0 (oc), 4 LED1 (oc), 5 LED2 (oc), 6 LED3 (oc), 7 LED4 (oc), 8 LED5 (oc), 9 LED6 (oc), 10 LED7 (oc), 11 VSS (power), 12 LED8 (oc), 13 LED9 (oc), 14 LED10 (oc), 15 LED11 (oc), 16 LED12 (oc), 17 LED13 (oc), 18 LED14 (oc), 19 LED15 (oc), 20 ~{OE} (in), 21 A5 (in), 22 EXTCLK (in), 23 SCL (in), 24 SDA (io), 25 VDD (power), 26 A0 (in), 27 A1 (in), 28 A2 (in)
text: PWM Controller

## Phototransistor NPN
designator Q?
NPN Photo transistor
pins: C Collector, E Emitter

## Phototransistor NPN 3 Leg
designator Q?
Three Legged Phototransistor; partNumber: *
pins: B Base, C Collector, E Emitter

## PI4IOE5V96224ZLEX
designator U?
24-GPIO Expander; partNumber: PI4IOE5V96224ZLEX; roomCode: *; Voltage Rating: *; Current Rating: *
footprint TQFN-24
pins: 0 GND (power), 1 AD2 (in), 2 ~{RST} (in), 3 IO0_0 (io), 4 IO0_1 (io), 5 IO0_2 (io), 6 IO0_3 (io), 7 IO0_4 (io), 8 IO0_5 (io), 9 IO0_6 (io), 10 IO0_7 (io), 11 IO1_0 (io), 12 IO1_1 (io), 13 IO1_2 (io), 14 IO1_3 (io), 15 IO1_4 (io), 16 IO1_5 (io), 17 IO1_6 (io), 18 IO1_7 (io), 19 IO2_0 (io), 20 IO2_1 (io), 21 IO2_2 (io), 22 IO2_3 (io), 23 IO2_4 (io), 24 IO2_5 (io), 25 IO2_6 (io), 26 IO2_7 (io), 27 ~{INT} (out), 28 SCL (in), 29 SDA (io), 30 Vcc (power), 31 AD0 (in), 32 AD1 (in)
text: PI4IOE5V96224

## PNP
designator Q?  (value not drawn)
footprint SOT-323
pins: 1 base, 2 Emitter, 3 Collector

## Potentiometer
designator P?  (value not drawn)
Variable Resistors; Power Rating: *; Tolerance: *; Resistance: *; PartNumber: *
footprint Potentiometer (9.6mm x 10mm x 5mm - Top adjustment)
footprint TC33X-2
footprint Bourns_silde_pot_20MM
footprint 3352T
footprint 331Y-001 (Potentiometer)
footprint PVG5A (Potentiometer)
footprint 3224J (POTENTIOMETER)
pins: 1, 2, 3

## Power Module AXB050
designator M?  partNumber: AXB050X43-SRZ
50 W Power module; voltageRating: 32 V; powerRating: 50 W; value: *
footprint AXB050
pins: 1 EN, 2 Sense (in), 3 TRIM, 4 Vout+ (out), 5 GND (power), 6 Vin+ (power)
text: Power Module; AXB050

## Power Module I6A4W
designator M?  powerRating: 250 W  partNumber: I6A4W010A033V-001-R
Power Module; voltageRating: 40 V; currentRating: *; Value: *
footprint i6A4W_Standard
pins: 1 Vin+ (power), 2 EN, 3 Vin- (power), 4 Vout- (power), 6 TRIM, 7 Sense+ (in), 8 Vout+ (out)
text: I6A4W

## Power Module OKI-T36
designator M?  partNumber: OKI-T/36W-W40N-C
36 W Power Module; powerRating: 36 W; voltageRating: 15 V; value: *
footprint OKI_T36_W40 (Power Module)
pins: 1 ~{EN}, 2 Vin+ (power), 3 GND (power), 4 TRIM, 5 Vout+ (out)
text: Power Module; OKI-T36

## PowerIsolator
designator ?
pins: 1 Vin+ (power), 2 Vin- (power), 3 Vout+ (power), 4 Vout- (power), 5 Com (power)
text: Power Isolator

## PowerJack-3
designator Conn?
Power Connector
footprint PJ-035-SMT (DC Power Jack 3 Conn CUI)
pins: 1, 2, 3

## pressureSensor_HSCDDR
designator U?  partNumber: HSCDDRD001PD2A3  (hidden comment: *)
Barbed, differential; Voltage Rating: 3.3 V; Current Rating: *; roomCode: *
footprint pressureSensor_HSCDDR
pins: 1 GND (power), 2 VDD (power), 3 SDA (io), 4 SCLK (in)
text: Pressure Sensor; HSCDDR

## pressureSensor_HSCMDR
designator U?  partNumber: HSCMDR  (hidden comment: *)
Barbed, differential; Voltage Rating: 3.3 V; Current Rating: *; roomCode: *
footprint pressureSensor_HSCMDR
pins: 1 GND (power), 2 VDD (power), 3 SDA (io), 4 SCLK (in)
text: Pressure Sensor

## pressureSensor_HSCMRR
designator U?  partNumber: HSCMRRN001PD2A3  (hidden comment: *)
Barbed, differential; Voltage Rating: 3.3 V; Current Rating: *; roomCode: *
footprint pressureSensor_HSCMRR
pins: 1 GND (power), 2 VDD (power), 3 SDA (io), 4 SCLK (in)
text: Pressure Sensor; HSCMRR

## PRoC_5671
designator PRoC?  (value not drawn)
footprint PRoC_5671_Module
pins: 1, 2, 3, 4, 5, 6, 7, 8, 9, 10, 11, 12, 13, 14, 15, 16, 17, 18, 19, 20, 21, 22, 23, 24, 25, 26, 27, 28, 29, 30, 31, 32, 33, 34, 35, 36, 37, 38, 39, 40, 41, 42, 43, 44
text: PRoC_CY5671

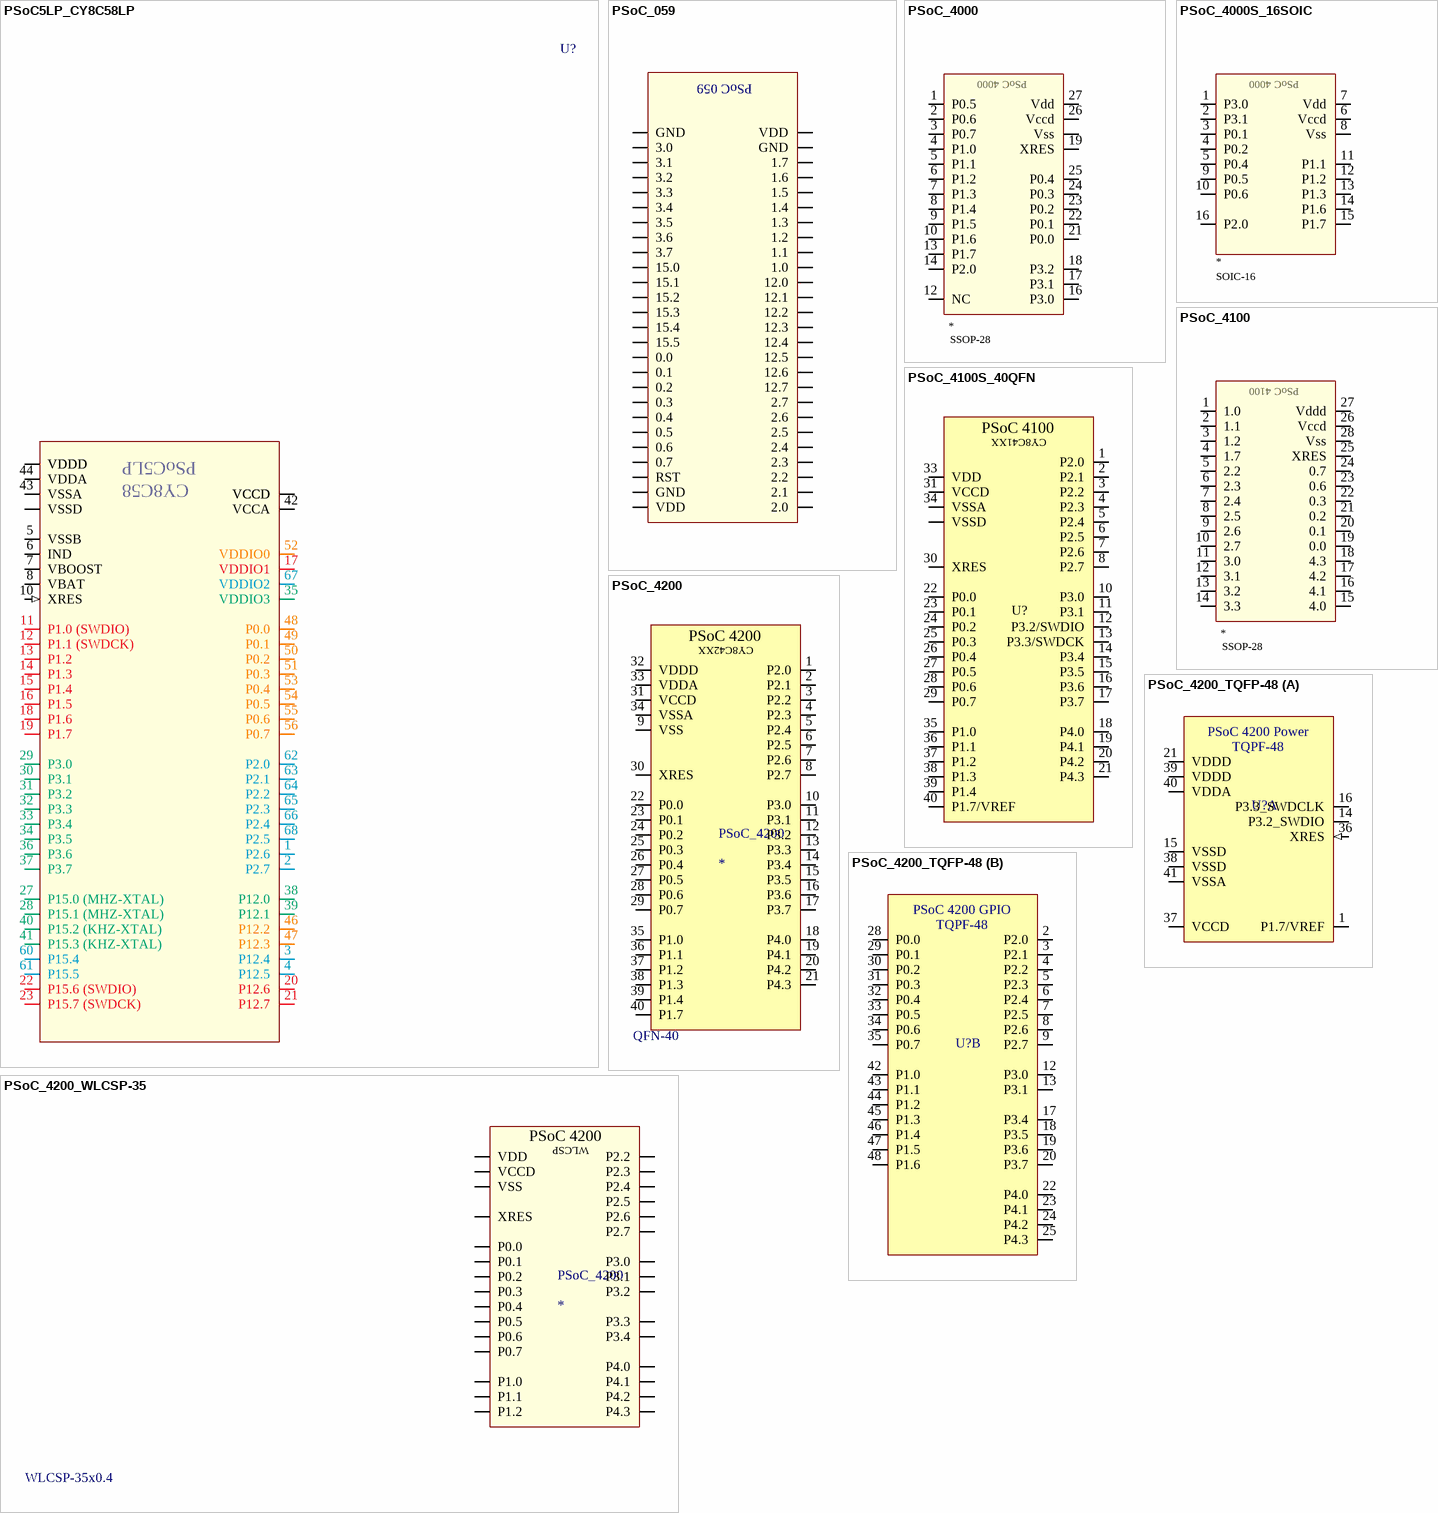
[diagram p10: symbols PSoC5LP_CY8C58LP to PSoC_4200_WLCSP-35]

## PSoC5LP_CY8C58LP
designator U?, comment PSoC5LP  (value not drawn)
Cypress PSoC 5 Low Power; partNumber: CY8C5888LTI-LP097; ComponentLink1URL: C:\Users\ccheney\Dropbox (MIT)\Components\PSoC\PSoC5LP\PSoC5LP_Chip_CY8C58LP.pdf; ComponentLink1Description: PSoC5LP Datasheet; roomCode: *; Voltage Rating: *
footprint QFN-68
pins: 0 EPAD (power), 1 P2.6 (io), 2 P2.7 (io), 3 P12.4 (io), 4 P12.5 (io), 5 VSSB (power), 6 IND (power), 7 VBOOST (power), 8 VBAT (power), 9 VSSD (power), 10 XRES (in), 11 P1.0 (SWDIO) (io), 12 P1.1 (SWDCK) (io), 13 P1.2 (io), 14 P1.3 (io), 15 P1.4 (io), 16 P1.5 (io), 17 VDDIO1 (power), 18 P1.6 (io), 19 P1.7 (io), 20 P12.6 (io), 21 P12.7 (io), 22 P15.6 (SWDIO) (io), 23 P15.7 (SWDCK) (io), 24 VDDD (power), 25 VSSD (power), 26 VCCD (power), 27 P15.0 (MHZ-XTAL) (io), 28 P15.1 (MHZ-XTAL) (io), 29 P3.0 (io), 30 P3.1 (io), 31 P3.2 (io), 32 P3.3 (io), 33 P3.4 (io), 34 P3.5 (io), 35 VDDIO3 (power), 36 P3.6 (io), 37 P3.7 (io), 38 P12.0 (io), 39 P12.1 (io), 40 P15.2 (KHZ-XTAL) (io), 41 P15.3 (KHZ-XTAL) (io), 42 VCCA (power), 43 VSSA (power), 44 VDDA (power), 45 VSSD (power), 46 P12.2 (io), 47 P12.3 (io), 48 P0.0 (io), 49 P0.1 (io), 50 P0.2 (io), 51 P0.3 (io), 52 VDDIO0 (power), 53 P0.4 (io), 54 P0.5 (io), 55 P0.6 (io), 56 P0.7 (io), 57 VCCD (power), 58 VSSD (power), 59 VDDD (power), 60 P15.4 (io), 61 P15.5 (io), 62 P2.0 (io), 63 P2.1 (io), 64 P2.2 (io), 65 P2.3 (io), 66 P2.4 (io), 67 VDDIO2 (power), 68 P2.5 (io)
text: CY8C58

## PSoC_059
designator PSoC_059
footprint PSoC_059
pins: 1 GND, 2 3.0, 3 3.1, 4 3.2, 5 3.3, 6 3.4, 7 3.5, 8 3.6, 9 3.7, 10 15.0, 11 15.1, 12 15.2, 13 15.3, 14 15.4, 15 15.5, 16 0.0, 17 0.1, 18 0.2, 19 0.3, 20 0.4, 21 0.5, 22 0.6, 23 0.7, 24 RST, 25 GND, 26 VDD, 27 VDD, 28 GND, 29 1.7, 30 1.6, 31 1.5, 32 1.4, 33 1.3, 34 1.2, 35 1.1, 36 1.0, 37 12.0, 38 12.1, 39 12.2, 40 12.3, 41 12.4, 42 12.5, 43 12.6, 44 12.7, 45 2.7, 46 2.6, 47 2.5, 48 2.4, 49 2.3, 50 2.2, 51 2.1, 52 2.0
text: PSoC 059

## PSoC_4000
designator U?
PSoC 4000; partNumber: *
footprint SSOP-28
pins: 1 P0.5 (io), 2 P0.6 (io), 3 P0.7 (io), 4 P1.0 (io), 5 P1.1 (io), 6 P1.2 (io), 7 P1.3 (io), 8 P1.4 (io), 9 P1.5 (io), 10 P1.6 (io), 11 (power), 12 NC (io), 13 P1.7 (io), 14 P2.0 (io), 15 (power), 16 P3.0 (io), 17 P3.1 (io), 18 P3.2 (io), 19 XRES, 20 (power), 21 P0.0 (io), 22 P0.1 (io), 23 P0.2 (io), 24 P0.3 (io), 25 P0.4 (io), 26 Vccd (power), 27 Vdd (power), 28 Vss (power)

## PSoC_4000S_16SOIC
designator U?
PSoC 4000; partNumber: *
footprint SOIC-16
pins: 1 P3.0 (io), 2 P3.1 (io), 3 P0.1 (io), 4 P0.2 (io), 5 P0.4 (io), 6 Vccd (power), 7 Vdd (power), 8 Vss (power), 9 P0.5 (io), 10 P0.6 (io), 11 P1.1 (io), 12 P1.2 (io), 13 P1.3 (io), 14 P1.6 (io), 15 P1.7 (io), 16 P2.0 (io)

## PSoC_4100
designator U?
PSoC 4100; partNumber: *
footprint SSOP-28
pins: 1 1.0 (io), 2 1.1 (io), 3 1.2 (io), 4 1.7 (io), 5 2.2 (io), 6 2.3 (io), 7 2.4 (io), 8 2.5 (io), 9 2.6 (io), 10 2.7 (io), 11 3.0 (io), 12 3.1 (io), 13 3.2 (io), 14 3.3 (io), 15 4.0 (io), 16 4.1 (io), 17 4.2 (io), 18 4.3 (io), 19 0.0 (io), 20 0.1 (io), 21 0.2 (io), 22 0.3 (io), 23 0.6 (io), 24 0.7 (io), 25 XRES, 26 Vccd (power), 27 Vddd (power), 28 Vss (power)

## PSoC_4100S_40QFN
designator U?  (value not drawn)
PSoC 4100S QFN-40 Package; partNumber: CY8C4125LQS-S423; Voltage Rating: *; Current Rating: *; roomCode: *
footprint QFN-40
pins: 1 P2.0, 2 P2.1, 3 P2.2, 4 P2.3, 5 P2.4, 6 P2.5, 7 P2.6, 8 P2.7, 9 VSSD (power), 10 P3.0, 11 P3.1, 12 P3.2/SWDIO, 13 P3.3/SWDCK, 14 P3.4, 15 P3.5, 16 P3.6, 17 P3.7, 18 P4.0, 19 P4.1, 20 P4.2, 21 P4.3, 22 P0.0, 23 P0.1, 24 P0.2, 25 P0.3, 26 P0.4, 27 P0.5, 28 P0.6, 29 P0.7, 30 XRES, 31 VCCD (power), 32 VSSD (power), 33 VDD (power), 34 VSSA (power), 35 P1.0, 36 P1.1, 37 P1.2, 38 P1.3, 39 P1.4, 40 P1.7/VREF, 41 DAP (power)
text: PSoC 4100; CY8C41XX

## PSoC_4200
designator PSoC_4200
PSoC  4200; PartNumber: CY8C4245LQI-483
footprint QFN-40
pins: 1 P2.0, 2 P2.1, 3 P2.2, 4 P2.3, 5 P2.4, 6 P2.5, 7 P2.6, 8 P2.7, 9 VSS (power), 10 P3.0, 11 P3.1, 12 P3.2, 13 P3.3, 14 P3.4, 15 P3.5, 16 P3.6, 17 P3.7, 18 P4.0, 19 P4.1, 20 P4.2, 21 P4.3, 22 P0.0, 23 P0.1, 24 P0.2, 25 P0.3, 26 P0.4, 27 P0.5, 28 P0.6, 29 P0.7, 30 XRES, 31 VCCD (power), 32 VDDD (power), 33 VDDA (power), 34 VSSA (power), 35 P1.0, 36 P1.1, 37 P1.2, 38 P1.3, 39 P1.4, 40 P1.7, 41 DAP (power)
text: PSoC 4200; CY8C42XX

## PSoC_4200_TQFP-48
designator U?  (value not drawn)
MCU 32-Bit PSoC 4200 ARM Cortex M0 RISC 16KB Flash 3.3V/5V 48-Pin LQFP Tray; Manufacturer: Cypress; Manufacturer Part Number: CY8C4244AZI-443; Frequency: 48MHz; Interface: I2C,SPI,IrDA,SSP,UART,USART,LIN; Number of I/Os: 36; Oscillator Type: Internal; RAM Size: 4KB; Number of Timers/Counters: 4; Watchdog Timer: Yes; Peripherals: Brown-out Detect/Reset,POR,PWM,WDT,LVD,LCD,CapSense; Min Supply Voltage: 1.71V; Max Supply Voltage: 5.5V; Value: *; Parameter 3: *; Parameter 4: *; Supplier 1: Digi-Key; RoHS: Yes; Category: Microcontrollers; Pricing 1: 1=6.25000, 10=5.57800, 25=5.01960, 80=4.57350, 250=4.12736, 500=3.56960, 1000=3.12340, 2500=2.96723, 5000=2.91000 (USD); Mount: Surface Mount; Case/Package: LQFP; Contact Plating: Gold; Min Operating Temperature: -40°C; Max Operating Temperature: 85°C; Packaging: Tape and Reel; Number of Programmable I/O: 36; Max Frequency: 48MHz; Memory Type: FLASH; Memory Size: 16KB; Core Architecture: ARM; RoHS Compliant: Yes; ComponentLink1URL: http://www.cypress.com/file/138656/download?src-supplier=Avnet; ComponentLink1Description: http://www.cypress.com/file/138656/download?src-supplier=Avnet; ComponentLink2URL: http://www.cypress.com/file/138656/download?src-supplier=Digi-Key; ComponentLink2Description: http://www.cypress.com/file/138656/download?src-supplier=Digi-Key; Supplier Part Number 1: CY8C4244AZI-443-ND; Part Number: CY8C4244AZI-443
footprint TQFP-48
part A pins: 1 P1.7/VREF, 14 P3.2_SWDIO (io), 15 VSSD (power), 16 P3.3_SWDCLK (io), 21 VDDD (power), 36 XRES (in), 37 VCCD (power), 38 VSSD (power), 39 VDDD (power), 40 VDDA (power), 41 VSSA (power)
part B pins: 2 P2.0 (io), 3 P2.1 (io), 4 P2.2 (io), 5 P2.3 (io), 6 P2.4 (io), 7 P2.5 (io), 8 P2.6 (io), 9 P2.7 (io), 12 P3.0 (io), 13 P3.1 (io), 17 P3.4 (io), 18 P3.5 (io), 19 P3.6 (io), 20 P3.7 (io), 22 P4.0 (io), 23 P4.1 (io), 24 P4.2 (io), 25 P4.3 (io), 28 P0.0 (io), 29 P0.1 (io), 30 P0.2 (io), 31 P0.3 (io), 32 P0.4 (io), 33 P0.5 (io), 34 P0.6 (io), 35 P0.7 (io), 42 P1.0 (io), 43 P1.1 (io), 44 P1.2 (io), 45 P1.3 (io), 46 P1.4 (io), 47 P1.5 (io), 48 P1.6 (io)
part A text: PSoC 4200 Power; TQPF-48
part B text: PSoC 4200 GPIO; TQPF-48

## PSoC_4200_WLCSP-35
designator PSoC_4200
PSoC  4200; PartNumber: CY8C4245FNI-483T
footprint WLCSP-35x0.4
pins: A1 P4.3, A2 P4.2, A3 P0.3, A4 P0.2, A5 P0.1, A6 P0.5, A7 VCCD (power), B1 P4.0, B2 P4.1, B3 P0.4, B4 P0.6, B5 P0.7, B6 XRES, B7 VSS (power), C1 P3.3, C2 P3.4, C3 P0.0, C4 P1.0, C5 P1.1, C6 P1.2, C7 VDD (power), D1 P3.2, D2 P3.1, D3 P2.2, E1 P3.0, E2 P2.7, E3 P2.6, E4 P2.3, E5 P2.4, E6 P2.5
text: PSoC 4200; WLCSP

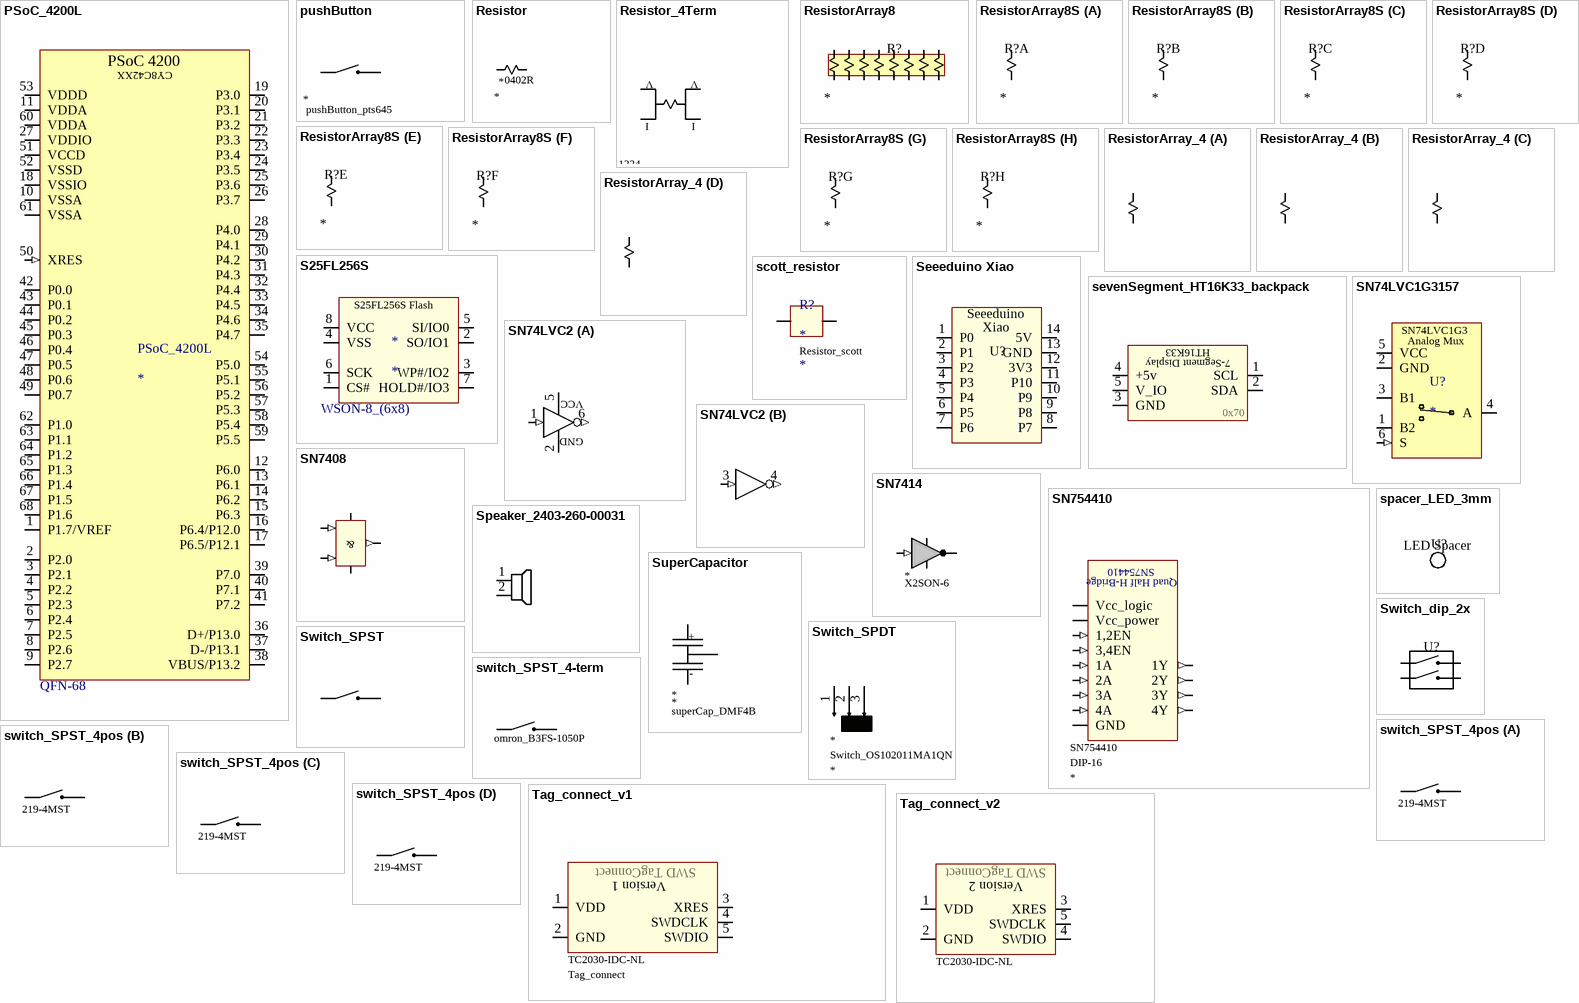
[diagram p11: symbols PSoC_4200L to Tag_connect_v2]

## PSoC_4200L
designator PSoC_4200L
PSoC  4200L; PartNumber: CY8C4248LTI-L475
footprint QFN-68
pins: 0 EPAD (power), 1 P1.7/VREF (io), 2 P2.0 (io), 3 P2.1 (io), 4 P2.2 (io), 5 P2.3 (io), 6 P2.4 (io), 7 P2.5 (io), 8 P2.6 (io), 9 P2.7 (io), 10 VSSA (power), 11 VDDA (power), 12 P6.0 (io), 13 P6.1 (io), 14 P6.2 (io), 15 P6.3 (io), 16 P6.4/P12.0 (io), 17 P6.5/P12.1 (io), 18 VSSIO (power), 19 P3.0 (io), 20 P3.1 (io), 21 P3.2 (io), 22 P3.3 (io), 23 P3.4 (io), 24 P3.5 (io), 25 P3.6 (io), 26 P3.7 (io), 27 VDDIO (power), 28 P4.0 (io), 29 P4.1 (io), 30 P4.2 (io), 31 P4.3 (io), 32 P4.4 (io), 33 P4.5 (io), 34 P4.6 (io), 35 P4.7 (io), 36 D+/P13.0 (io), 37 D-/P13.1 (io), 38 VBUS/P13.2 (io), 39 P7.0 (io), 40 P7.1 (io), 41 P7.2 (io), 42 P0.0 (io), 43 P0.1 (io), 44 P0.2 (io), 45 P0.3 (io), 46 P0.4 (io), 47 P0.5 (io), 48 P0.6 (io), 49 P0.7 (io), 50 XRES (in), 51 VCCD (power), 52 VSSD (power), 53 VDDD (power), 54 P5.0 (io), 55 P5.1 (io), 56 P5.2 (io), 57 P5.3 (io), 58 P5.4 (io), 59 P5.5 (io), 60 VDDA (power), 61 VSSA (power), 62 P1.0 (io), 63 P1.1 (io), 64 P1.2 (io), 65 P1.3 (io), 66 P1.4 (io), 67 P1.5 (io), 68 P1.6 (io)
text: PSoC 4200; CY8C42XX

## pushButton
designator B?
Momentary Switch; Current Rating: *; Voltage Rating: *; Value: *; ESR: *; partNumber: *
footprint pushButton_pts645
footprint PushButton_KMR (KMR221GLFS); pin to pad 2>1 4>3
footprint button_TL3305AF160QG
footprint button_SPST_B3F4050
footprint button_5135TR; pin to pad 2>1 3>2 4>2
pins: 1, 2, 3, 4

## Resistor
designator R?  (value not drawn)
Resistors; Power Rating: *; PartNumber: *; roomCode: *; Tolerance: *; Value: *
footprint 0603R
footprint 0201R
footprint 1206R
footprint Resistor_throughHole_small
footprint ResistorThroughHole
footprint resist_slimmox_10203 (Bleed Resistor)
footprint M02x1_100mill_female
footprint 2512R
footprint 0402R
footprint 4020R
footprint HSA10_Resistor (16 W Sense Resistor)
footprint 0805R
footprint 1210R
pins: 1, 2

## Resistor_4Term
designator R?
Four terminal, current sense resistor; Value: *; Current Rating: *; PartNumber: *
footprint 1224
pins: 1 V1, 2 I1, 3 I2, 4 V2
text: V; I

## ResistorArray8
designator R?
8x Resistor Array; partNumber: *; Power Rating: *; Current Rating: *; roomCode: *; Value: *
footprint 1506R8
pins: 1, 2, 3, 4, 5, 6, 7, 8, 9, 10, 11, 12, 13, 14, 15, 16

## ResistorArray8S
designator R?
8x Resistor Array, individual style; partNumber: *; Voltage Rating: *; Current Rating: *; roomCode: *; value: *
footprint 1506R8
part A pins: 1, 16
part B pins: 2, 15
part C pins: 3, 14
part D pins: 4, 13
part E pins: 5, 12
part F pins: 6, 11
part G pins: 7, 10
part H pins: 8, 9

## ResistorArray_4
designator R?
Resistor Array; PowerRating: *; tolerance: *; partNumber: *; Value: *
footprint 0804_resistorArray
part A pins: 1, 2
part B pins: 3, 4
part C pins: 5, 6
part D pins: 7, 8

## S25FL256S
designator *
PartNumber: S25FL256SAGNFI001
footprint WSON-8_(6x8)
pins: 1 CS#, 2 SO/IO1, 3 WP#/IO2, 4 VSS (power), 5 SI/IO0, 6 SCK, 7 HOLD#/IO3, 8 VCC (power)
text: S25FL256S Flash

## scott_resistor
designator R?
Scott's resistor; Part Number: *
footprint Resistor_scott
pins: 1, 2 "here is a description"

## Seeeduino Xiao
designator U?  (value not drawn)
Xiao Ardunio Microcontroller; partNumber: Seeeduino XIAO; Voltage Rating: 5V; Current Rating: *; roomCode: *
footprint Seeeduino Xiao
pins: 1 P0 (io), 2 P1 (io), 3 P2 (io), 4 P3 (io), 5 P4 (io), 6 P5 (io), 7 P6 (io), 8 P7 (io), 9 P8 (io), 10 P9 (io), 11 P10 (io), 12 3V3 (power), 13 GND (power), 14 5V (power)
text: Seeeduino; Xiao

## sevenSegment_HT16K33_backpack
designator U?  i2cAddr: 0x70
7 Segment display with the HT16K33 Backpack from Adafruit; partNumber: HT16K33
pins: 1 SCL (io), 2 SDA (io), 3 GND (power), 4 +5v (power), 5 V_IO (power)
text: 7-Segment Display

## SN74LVC1G3157
designator U?
SPDT Analog Mux; partNumber: SN74LVC1G3157DRLR; Voltage Rating: 5.5V; Current Rating: *; Room Code: *; Value: *
footprint SOT-563
pins: 1 B2 (io), 2 GND (power), 3 B1 (io), 4 A (io), 5 VCC (power), 6 S (in)
text: SN74LVC1G3; Analog Mux

## SN74LVC2
designator U?
Dual Inverter Schmitt; partNumber: SN74LVC2G14DBVR; Voltage Rating: 6.5 V
footprint SOT23-6
part A pins: 1 1A (in), 2 GND (power), 5 VCC (power), 6 1Y (out)
part B pins: 3 1A (in), 4 2Y (out)

## SN7408
designator U?
AND Gate; partNumber: *
footprint X2SON-6
footprint SOT23-5; pin to pad 6>5
footprint SOT-5X3; pin to pad 6>5
pins: 1 A (in), 2 B (in), 3 GND (power), 4 Y (out), 6 Vcc (power)
text: &

## SN7414
designator Q?
Inverter with Schmitt trigger inputs; PartNumber: *
footprint X2SON-6
pins: 2 A (in), 3 GND (power), 4 Y (out), 6 Vcc (power)

## SN754410
designator U?  partNumber: SN754410
Quad Half-H Driver; HeaderPartNumber: *
footprint DIP-16
footprint DIP-16_Socket
footprint DIP-16_Headers
pins: 1 1,2EN (in), 2 1A (in), 3 1Y (out), 4 GND (power), 5 GND (power), 6 2Y (out), 7 2A (in), 8 Vcc_power (power) "4.5v-36v motor power", 9 3,4EN (in), 10 3A (in), 11 3Y (out), 12 GND (power), 13 GND (power), 14 4Y (out), 15 4A (in), 16 Vcc_logic (power) "5v logic supply"
text: Quad Half H-Bridge

## spacer_LED_3mm
designator U?  (value not drawn)  (mechanical)
partNumber: 7355; Voltage Rating: *; Current Rating: *; roomCode: *
text: LED Spacer

## Speaker_2403-260-00031
designator ?
footprint Speaker_2403-260-00031
pins: 1 V-, 2 V-

## SuperCapacitor
designator C?
EDLC with balance; Voltage Rating: *; CurrentRating: *; ESR: *; partNumber: *; Value: *
footprint superCap_DMF4B; pin to pad +>3 ->1 B>2
pins: +, -, B

## Switch_dip_2x
designator U?  (value not drawn)
partNumber: DS04-254-2-02BK-SMT; Voltage Rating: 24 V; Current Rating: 25 mA; roomCode: *
footprint SWITCH_DIP_DS04-254-2-02BK-SMT
pins: 1, 2, 3, 4

## Switch_SPDT
designator S?, comment Switch  (value not drawn)
Single Pole Double Throw; value: N/A; PartNumber: *; HeaderPartNumber: *
footprint Switch_OS102011MA1QN (SPDT)
footprint Switch_MLL1200S (SPDT Switch)
footprint SWITCH_CAS-120TA (SPDT Switch)
footprint M03x1_100Mill-FEMALE
footprint M03x1_1.25mm
pins: 1, 2, 3

## Switch_SPST
designator SW?
Single Pole Single Throw
footprint 1-1571076-0
pins: 1, 2

## switch_SPST_4-term
designator ?
Single Pole Single Throw, 4 terminals; partNumber: *; Current Rating: *; Voltage Rating: *
footprint omron_B3FS-1050P
pins: 1, 2, 3, 4

## switch_SPST_4pos
designator SW?  partNumber: 219-4MST
4x Single Pole Single Throw switch; Current Rating: 100 mA; Voltage Rating: 20 V
footprint dipSwitch_100mil_4pos
part A pins: 1, 5
part B pins: 2, 6
part C pins: 3, 7
part D pins: 4, 8

## Tag_connect_v1
designator SWD, comment partNumber: TC2030-IDC-NL  (hidden comment: Tag Connect v1)  (no BOM)
SWD TagConnection
footprint Tag_connect
pins: 1 VDD, 2 GND, 3 XRES, 4 SWDCLK, 5 SWDIO
text: SWD TagConnect; Version 1

## Tag_connect_v2
designator SWD  partNumber: TC2030-IDC-NL  (no BOM)
SWD Tag Connect
footprint Tag_connect_2030-IDC-NL (TC2030-IDC-NL)
footprint TAG_CONNECT_2030_IDC
pins: 1 VDD, 2 GND, 3 XRES, 4 SWDIO, 5 SWDCLK
text: SWD TagConnect; Version 2

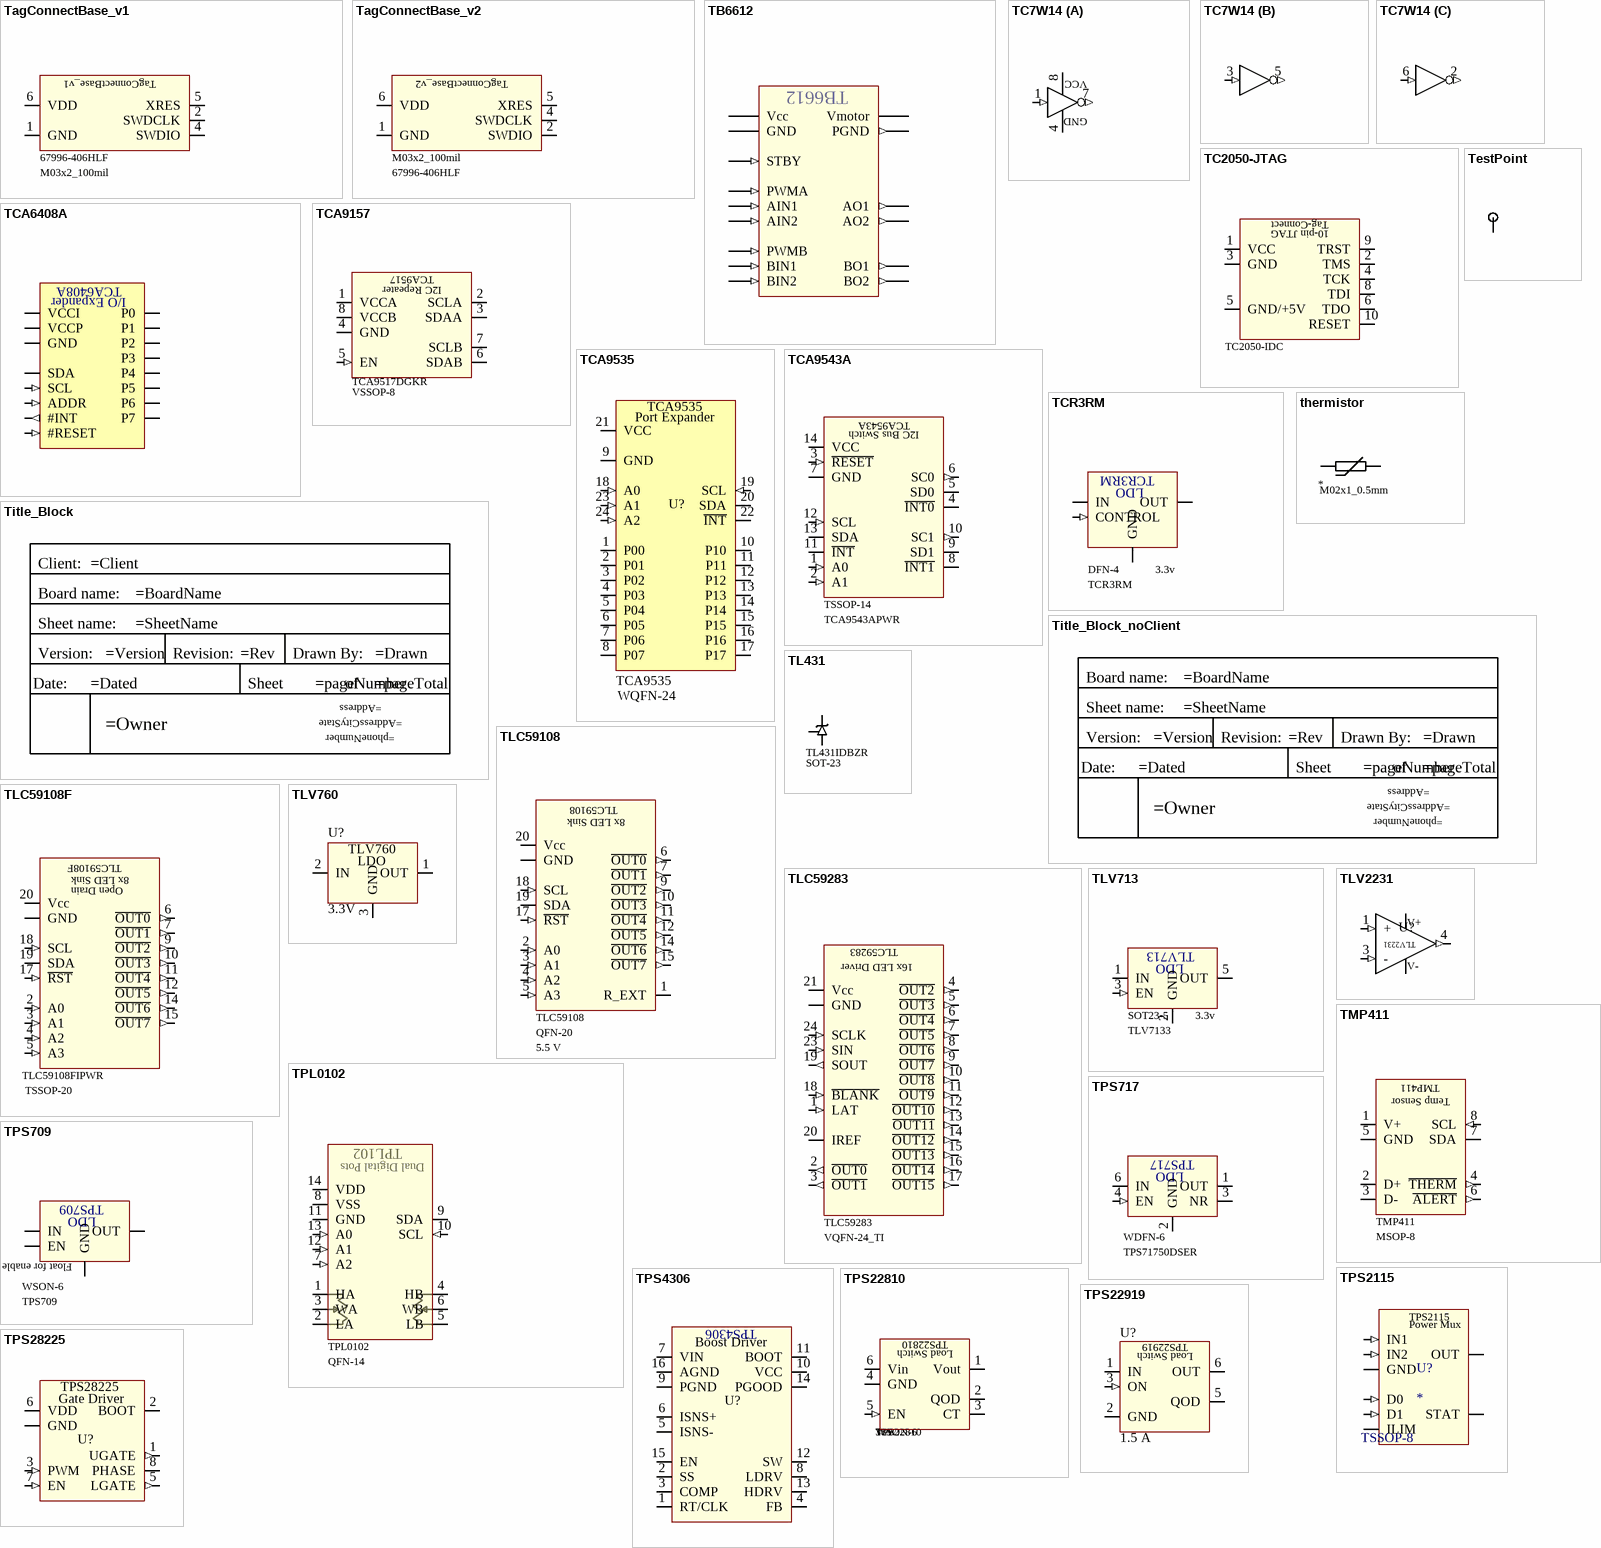
[diagram p12: symbols TagConnectBase_v1 to TPS28225]

## TagConnectBase_v1
designator H?  partNumber: 67996-406HLF
non-spring pin side of the tag connect adapter
footprint M03x2_100mil
pins: 1 GND, 2 SWDCLK, 4 SWDIO, 5 XRES, 6 VDD

## TagConnectBase_v2
designator H?  partNumber: 67996-406HLF
non-spring side of the tag connect v2
footprint M03x2_100mil
footprint M03x2_100mil_SHROUDED
pins: 1 GND, 2 SWDIO, 4 SWDCLK, 5 XRES, 6 VDD

## TB6612
designator U?
Quad half H-bridge, 1.2A
footprint SSOP-24
pins: 1 AO1 (out), 2 AO1 (power) hidden to AO1, 3 PGND (out), 4 PGND (out) hidden to PGND, 5 AO2 (out), 6 AO2 (out) hidden to AO2, 7 BO2 (out), 8 BO2 (out) hidden to BO2, 9 PGND (out) hidden to PGND, 10 PGND (out) hidden to PGND, 11 BO1 (out), 12 BO1 (out) hidden to BO1, 13 Vmotor (power), 14 Vmotor (power) hidden to Vmotor, 15 PWMB (in), 16 BIN2 (in), 17 BIN1 (in), 18 GND (power), 19 STBY (in), 20 Vcc (power), 21 AIN1 (in), 22 AIN2 (in), 23 PWMA (in), 24 Vmotor (power) hidden to Vmotor

## TC7W14
designator U?
3 Channel Inverter; partNumber: TC7W14; Voltage Rating: 6 V
footprint VFSOP-8
part A pins: 1 1A (in), 4 GND (power), 7 1Y (out), 8 VCC (power)
part B pins: 3 2A (in), 5 2Y (out)
part C pins: 2 3Y (out), 6 3A (in)

## TC2050-JTAG
designator H?  (no BOM)
Tag-Connect 10 Pin; partNumber: TC2050-IDC
footprint TC2050-IDC
footprint TC2050-IDC-NL
pins: 1 VCC, 2 TMS, 3 GND, 4 TCK, 5 GND/+5V, 6 TDO, 8 TDI, 9 TRST, 10 RESET
text: Tag-Connect; 10-pin JTAG

## TCA6408A
designator U?
I/O Port expander
footprint QFN-16
footprint UQFN-16
pins: 1 #RESET (in), 2 P0 (io), 3 P1 (io), 4 P2 (io), 5 P3 (io), 6 GND (power), 7 P4 (io), 8 P5 (io), 9 P6 (io), 10 P7 (io), 11 #INT (out), 12 SCL (in), 13 SDA (io), 14 VCCP (power), 15 VCCI (power), 16 ADDR (in)
text: I/O Expander

## TCA9157
designator U?  partNumber: TCA9517DGKR
I2C Repeater; Volage Rating: 5.5 V
footprint VSSOP-8
pins: 1 VCCA (power), 2 SCLA (oc), 3 SDAA (oc), 4 GND (power), 5 EN (in), 6 SDAB (oc), 7 SCLB (oc), 8 VCCB (power)
text: TCA9517

## TCA9535
designator U?  partNumber: TCA9535  (hidden comment: *)
16 Port I/O Expander; Voltage Rating: 6 V; Current Rating: *; roomCode: *
footprint WQFN-24
pins: 0 EPAD, 1 P00 (io), 2 P01 (io), 3 P02 (io), 4 P03 (io), 5 P04 (io), 6 P05 (io), 7 P06 (io), 8 P07 (io), 9 GND (power), 10 P10 (io), 11 P11 (io), 12 P12 (io), 13 P13 (io), 14 P14 (io), 15 P15 (io), 16 P16 (io), 17 P17 (io), 18 A0 (in), 19 SCL (in), 20 SDA (io), 21 VCC (power), 22 ~{INT} (oc), 23 A1 (in), 24 A2 (in)
text: Port Expander

## TCA9543A
designator U?  partNumber: TCA9543APWR
I2C Bus Switch; Voltage Rating: 5.5 V
footprint TSSOP-14
pins: 1 A0 (in), 2 A1 (in), 3 ~{RESET} (in), 4 ~{INT0} (oc), 5 SD0 (io), 6 SC0 (out), 7 GND (power), 8 ~{INT1} (oc), 9 SD1 (io), 10 SC1 (out), 11 ~{INT} (oc), 12 SCL (in), 13 SDA (io), 14 VCC (power)

## TCR3RM
designator U?, comment value 3.3v  PartNumber: TCR3RM  (hidden comment: LDO)
Linear Regulator
footprint DFN-4 (MIC550X)
pins: 0 PAD, 1 OUT (power), 2 GND (power), 3 CONTROL (in), 4 IN (power)

## TestPoint
designator TP?  (value not drawn)  (no BOM)
Board testing point; roomCode: *; partNumber: *
footprint TestPoint
footprint TESTPOINT_VIA
footprint via_0.4x0.8
footprint via_0.5x1.0
footprint testPoint_miniature_5266
footprint HEADER_1x1_0.75mm
footprint mill-max-0985-0-15-20-71-14-11-0
footprint Testpoint_PAD_0.75mm
pins: 1

## thermistor
designator T?
NTC Thermistor; Value: *; Pmax: *; partNumber: *
footprint M02x1_0.5mm
footprint M02_0.35x1mm
footprint 0603R
pins: 1, 2

## Title_Block
designator ?  (graphical)
Schematic title block; Sheet Name: =SheetName; Owner name: =Owner; Version Num: =Version; total Page Number: =pageTotal; Revision: =Rev; page Number: =pageNumber; latestDate: =Dated; drawn by: =Drawn; ClientName: =Client; Board Name: =BoardName
text: Client:; Board name:; Sheet name:; Version:; Revision:; Drawn By:; Date:; Sheet; of

## Title_Block_noClient
designator ?  (graphical)
Schematic title block; Sheet Name: =SheetName; Doc Owner: =Owner; Board Version: =Version; Total Page: =pageTotal; Revision: =Rev; Page Number: =pageNumber; Date Modified: =Dated; Drawn By: =Drawn; Board name: =BoardName
text: Board name:; Sheet name:; Version:; Revision:; Drawn By:; Date:; Sheet; of

## TL431
designator U?  partNumber: TL431IDBZR
Precision Programmable Reference; Tolerance: ±2.2%; Voltage Rating: 2.495V - 36V
footprint SOT-23
pins: 1 CATHODE, 2 REF, 3 ANODE

## TLC59108
designator U?  Voltage Rating: 5.5 V  partNumber: TLC59108
8x LED Sink; Current Rating: 8x 150 mA; Value: *
footprint QFN-20
pins: 0 Thermal, 1 R_EXT, 2 A0 (in), 3 A1 (in), 4 A2 (in), 5 A3 (in), 6 ~{OUT0} (out), 7 ~{OUT1} (out), 8 GND (power), 9 ~{OUT2} (out), 10 ~{OUT3} (out), 11 ~{OUT4} (out), 12 ~{OUT5} (out), 13 GND (power), 14 ~{OUT6} (out), 15 ~{OUT7} (out), 16 GND (power), 17 ~{RST} (in), 18 SCL (in), 19 SDA (io), 20 Vcc (power)

## TLC59108F
designator U?  partNumber: TLC59108FIPWR
8x LED Sink Open Drain; Voltage Rating: 7 V; Current Rating: 120 mA
footprint TSSOP-20
pins: 2 A0 (in), 3 A1 (in), 4 A2 (in), 5 A3 (in), 6 ~{OUT0} (out), 7 ~{OUT1} (out), 8 GND (power), 9 ~{OUT2} (out), 10 ~{OUT3} (out), 11 ~{OUT4} (out), 12 ~{OUT5} (out), 13 GND (power), 14 ~{OUT6} (out), 15 ~{OUT7} (out), 16 GND (power), 17 ~{RST} (in), 18 SCL (in), 19 SDA (io), 20 Vcc (power)
text: 8x LED Sink; Open Drain

## TLC59283
designator U?  PartNumber: TLC59283
16x LED Driver; Manufacturer: Texas Instruments; PowerRating: 16x 35 mA; Value: 16x LED Driver; RoomCode: *
footprint VQFN-24_TI
pins: 0 Thermal, 1 LAT (in), 2 ~{OUT0} (out), 3 ~{OUT1} (out), 4 ~{OUT2} (out), 5 ~{OUT3} (out), 6 ~{OUT4} (out), 7 ~{OUT5} (out), 8 ~{OUT6} (out), 9 ~{OUT7} (out), 10 ~{OUT8} (out), 11 ~{OUT9} (out), 12 ~{OUT10} (out), 13 ~{OUT11} (out), 14 ~{OUT12} (out), 15 ~{OUT13} (out), 16 ~{OUT14} (out), 17 ~{OUT15} (out), 18 ~{BLANK} (in), 19 SOUT (out), 20 IREF (io), 21 Vcc (power), 22 GND (power), 23 SIN (in), 24 SCLK (in)

## TLV713
designator U?, comment value 3.3v  PartNumber: TLV7133  (hidden comment: LDO)
Linear Regulator
footprint SOT23-5
pins: 1 IN (power), 2 GND (power), 3 EN (in), 5 OUT (power)

## TLV760
designator U?  value 3.3V  (hidden comment: *)
partNumber: TLV76033DBZT; Voltage Rating: 30 V; Current Rating: 100 A; roomCode: *
footprint SOT-23-3
pins: 1 OUT (power), 2 IN (power), 3 GND (power)
text: LDO

## TLV2231
designator U?  (value not drawn)
Rail to rail Op amp; partNumber: TLV2231CDBVR; Voltage Rating: 10 V; Current Rating: 50 mA; roomCode: *
footprint SOT23-5
pins: 1 + (in), 2 V- (power), 3 - (in), 4 Out (out), 5 V+ (power)

## TMP411
designator U?  partNumber: TMP411
Temp Sense I2C; Voltage Rating: 7 V; Value: *; i2cAddress: *
footprint MSOP-8
pins: 1 V+ (power), 2 D+, 3 D-, 4 ~{THERM} (out), 5 GND (power), 6 ~{ALERT} (out), 7 SDA (io), 8 SCL (in)
text: Temp Sensor